# Altium integrated library Microchip DSC 16-Bit dsPIC30F.IntLib: 267 symbols (part 10 of 12)
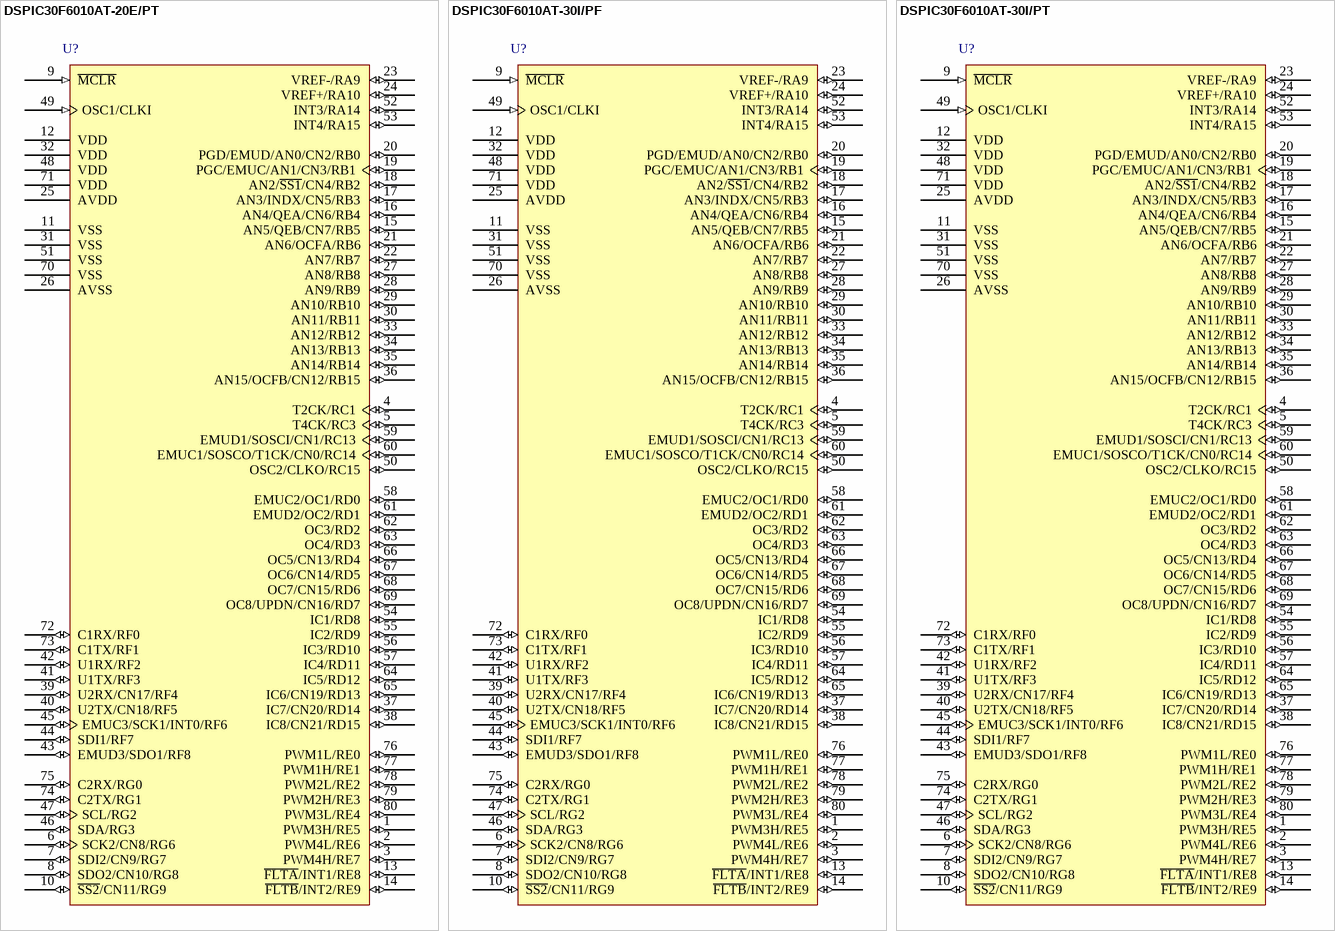
[diagram p52: symbols DSPIC30F6010AT-20E/PT to DSPIC30F6010AT-30I/PT]

## DSPIC30F6010AT-30I/PF
designator U?
High-Performance 16-bit Digital Signal Controller, 144 KB Flash, 8 KB SRAM, 4 KB EEPROM, 80-Pin TQFP, Industrial Temperature, Tape and Reel; Published: 29-Jan-2009; DatasheetVersion: revD, Jun-2008; PackageVersion: revBB, Aug-2009; PackageReference: TQFP-PF80; Publisher: Altium Limited; PackageDescription: 80-Lead Plastic Thin Quad Flatpack (PF) - 14x14x1mm Body, 2.00mm [TQFP]; Supplier 1: Digi-Key; Supplier Part Number 1: DSPIC30F6010AT-30I/PF-ND; Code_JEDEC: MS-026-AEC; ComponentLink1Description: Datasheet; ComponentLink1URL: http://ww1.microchip.com/downloads/en/DeviceDoc/70150D.pdf; ComponentLink2Description: Packaging Specification; ComponentLink2URL: http://www.microchip.com/stellent/groups/techpub_sg/documents/packagingspec/en012702.pdf; ComponentLink3Description: Microchip.com Home; ComponentLink3URL: http://www.microchip.com/
footprint TQFP-PF80_N (Thin QFP, 80-Leads, Body 14 x 14mm, Pitch 0.65mm, IPC Medium Density)
footprint TQFP-PF80_L (Thin QFP, 80-Leads, Body 14 x 14mm, Pitch 0.65mm, IPC High Density)
footprint TQFP-PF80_M (Thin QFP, 80-Leads, Body 14 x 14mm, Pitch 0.65mm, IPC Low Density)
pins: 1 PWM3H/RE5 (io), 2 PWM4L/RE6 (io), 3 PWM4H/RE7 (io), 4 T2CK/RC1 (io), 5 T4CK/RC3 (io), 6 SCK2/CN8/RG6 (io), 7 SDI2/CN9/RG7 (io), 8 SDO2/CN10/RG8 (io), 9 ~{MCLR} (in), 10 ~{SS2}/CN11/RG9 (io), 11 VSS (power), 12 VDD (power), 13 ~{FLTA}/INT1/RE8 (io), 14 ~{FLTB}/INT2/RE9 (io), 15 AN5/QEB/CN7/RB5 (io), 16 AN4/QEA/CN6/RB4 (io), 17 AN3/INDX/CN5/RB3 (io), 18 AN2/~{SS1}/CN4/RB2 (io), 19 PGC/EMUC/AN1/CN3/RB1 (io), 20 PGD/EMUD/AN0/CN2/RB0 (io), 21 AN6/OCFA/RB6 (io), 22 AN7/RB7 (io), 23 VREF-/RA9 (io), 24 VREF+/RA10 (io), 25 AVDD (power), 26 AVSS (power), 27 AN8/RB8 (io), 28 AN9/RB9 (io), 29 AN10/RB10 (io), 30 AN11/RB11 (io), 31 VSS (power), 32 VDD (power), 33 AN12/RB12 (io), 34 AN13/RB13 (io), 35 AN14/RB14 (io), 36 AN15/OCFB/CN12/RB15 (io), 37 IC7/CN20/RD14 (io), 38 IC8/CN21/RD15 (io), 39 U2RX/CN17/RF4 (io), 40 U2TX/CN18/RF5 (io), 41 U1TX/RF3 (io), 42 U1RX/RF2 (io), 43 EMUD3/SDO1/RF8 (io), 44 SDI1/RF7 (io), 45 EMUC3/SCK1/INT0/RF6 (io), 46 SDA/RG3 (io), 47 SCL/RG2 (io), 48 VDD (power), 49 OSC1/CLKI (in), 50 OSC2/CLKO/RC15 (io), 51 VSS (power), 52 INT3/RA14 (io), 53 INT4/RA15 (io), 54 IC1/RD8 (io), 55 IC2/RD9 (io), 56 IC3/RD10 (io), 57 IC4/RD11 (io), 58 EMUC2/OC1/RD0 (io), 59 EMUD1/SOSCI/CN1/RC13 (io), 60 EMUC1/SOSCO/T1CK/CN0/RC14 (io), 61 EMUD2/OC2/RD1 (io), 62 OC3/RD2 (io), 63 OC4/RD3 (io), 64 IC5/RD12 (io), 65 IC6/CN19/RD13 (io), 66 OC5/CN13/RD4 (io), 67 OC6/CN14/RD5 (io), 68 OC7/CN15/RD6 (io), 69 OC8/UPDN/CN16/RD7 (io), 70 VSS (power), 71 VDD (power), 72 C1RX/RF0 (io), 73 C1TX/RF1 (io), 74 C2TX/RG1 (io), 75 C2RX/RG0 (io), 76 PWM1L/RE0 (io), 77 PWM1H/RE1 (io), 78 PWM2L/RE2 (io), 79 PWM2H/RE3 (io), 80 PWM3L/RE4 (io)

## DSPIC30F6010AT-30I/PT
designator U?
High-Performance 16-bit Digital Signal Controller, 144 KB Flash, 8 KB SRAM, 4 KB EEPROM, 80-Pin TQFP, Industrial Temperature, Tape and Reel; Published: 29-Jan-2009; DatasheetVersion: revD, Jun-2008; PackageVersion: revBB, Aug-2009; PackageReference: TQFP-PT80; Publisher: Altium Limited; PackageDescription: 80-Lead Thin Plastic Quad Flat Pack (PT) - 12x12x1mm Body, 2.00mm [TQFP]; Supplier 1: Digi-Key; Supplier Part Number 1: DSPIC30F6010AT-30I/PT-ND; Code_JEDEC: MS-026; ComponentLink1Description: Datasheet; ComponentLink1URL: http://ww1.microchip.com/downloads/en/DeviceDoc/70150D.pdf; ComponentLink2Description: Packaging Specification; ComponentLink2URL: http://www.microchip.com/stellent/groups/techpub_sg/documents/packagingspec/en012702.pdf; ComponentLink3Description: Microchip.com Home; ComponentLink3URL: http://www.microchip.com/
footprint TQFP-PT80_N (Thin QFP, 80-Leads, Body 12x12mm, Pitch 0.5mm, IPC Medium Density)
footprint TQFP-PT80_L (Thin QFP, 80-Leads, Body 12x12mm, Pitch 0.5mm, IPC High Density)
footprint TQFP-PT80_M (Thin QFP, 80-Leads, Body 12x12mm, Pitch 0.5mm, IPC Low Density)
pins: 1 PWM3H/RE5 (io), 2 PWM4L/RE6 (io), 3 PWM4H/RE7 (io), 4 T2CK/RC1 (io), 5 T4CK/RC3 (io), 6 SCK2/CN8/RG6 (io), 7 SDI2/CN9/RG7 (io), 8 SDO2/CN10/RG8 (io), 9 ~{MCLR} (in), 10 ~{SS2}/CN11/RG9 (io), 11 VSS (power), 12 VDD (power), 13 ~{FLTA}/INT1/RE8 (io), 14 ~{FLTB}/INT2/RE9 (io), 15 AN5/QEB/CN7/RB5 (io), 16 AN4/QEA/CN6/RB4 (io), 17 AN3/INDX/CN5/RB3 (io), 18 AN2/~{SS1}/CN4/RB2 (io), 19 PGC/EMUC/AN1/CN3/RB1 (io), 20 PGD/EMUD/AN0/CN2/RB0 (io), 21 AN6/OCFA/RB6 (io), 22 AN7/RB7 (io), 23 VREF-/RA9 (io), 24 VREF+/RA10 (io), 25 AVDD (power), 26 AVSS (power), 27 AN8/RB8 (io), 28 AN9/RB9 (io), 29 AN10/RB10 (io), 30 AN11/RB11 (io), 31 VSS (power), 32 VDD (power), 33 AN12/RB12 (io), 34 AN13/RB13 (io), 35 AN14/RB14 (io), 36 AN15/OCFB/CN12/RB15 (io), 37 IC7/CN20/RD14 (io), 38 IC8/CN21/RD15 (io), 39 U2RX/CN17/RF4 (io), 40 U2TX/CN18/RF5 (io), 41 U1TX/RF3 (io), 42 U1RX/RF2 (io), 43 EMUD3/SDO1/RF8 (io), 44 SDI1/RF7 (io), 45 EMUC3/SCK1/INT0/RF6 (io), 46 SDA/RG3 (io), 47 SCL/RG2 (io), 48 VDD (power), 49 OSC1/CLKI (in), 50 OSC2/CLKO/RC15 (io), 51 VSS (power), 52 INT3/RA14 (io), 53 INT4/RA15 (io), 54 IC1/RD8 (io), 55 IC2/RD9 (io), 56 IC3/RD10 (io), 57 IC4/RD11 (io), 58 EMUC2/OC1/RD0 (io), 59 EMUD1/SOSCI/CN1/RC13 (io), 60 EMUC1/SOSCO/T1CK/CN0/RC14 (io), 61 EMUD2/OC2/RD1 (io), 62 OC3/RD2 (io), 63 OC4/RD3 (io), 64 IC5/RD12 (io), 65 IC6/CN19/RD13 (io), 66 OC5/CN13/RD4 (io), 67 OC6/CN14/RD5 (io), 68 OC7/CN15/RD6 (io), 69 OC8/UPDN/CN16/RD7 (io), 70 VSS (power), 71 VDD (power), 72 C1RX/RF0 (io), 73 C1TX/RF1 (io), 74 C2TX/RG1 (io), 75 C2RX/RG0 (io), 76 PWM1L/RE0 (io), 77 PWM1H/RE1 (io), 78 PWM2L/RE2 (io), 79 PWM2H/RE3 (io), 80 PWM3L/RE4 (io)

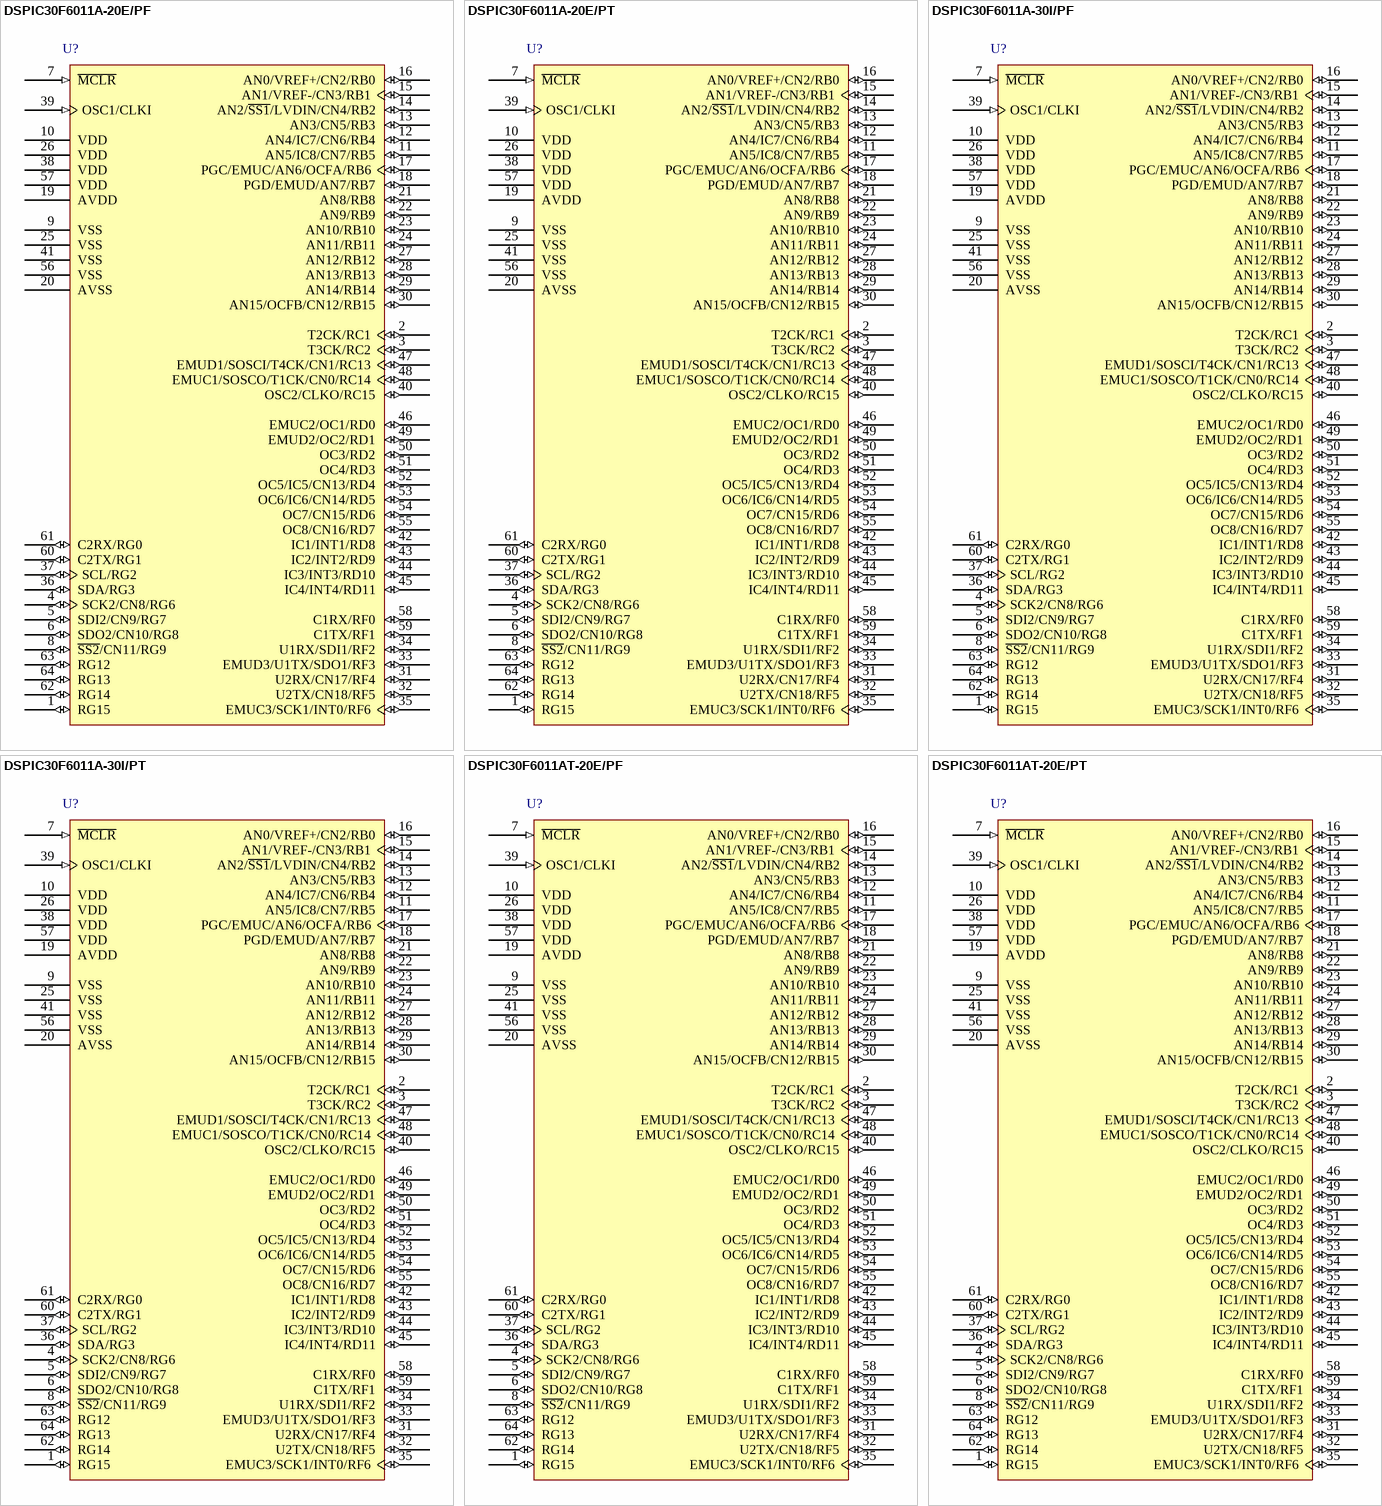
[diagram p33: symbols DSPIC30F6011A-20E/PF to DSPIC30F6011AT-20E/PT]

## DSPIC30F6011A-20E/PF
designator U?
High-Performance 16-bit Digital Signal Controller, 132 KB Flash, 6 KB SRAM, 2 KB EEPROM, 64-Pin TQFP, Extended High Temperature; Published: 29-Jan-2009; DatasheetVersion: revD, Jul-2008; PackageVersion: revBB, Aug-2009; PackageReference: TQFP-PF64; Publisher: Altium Limited; PackageDescription: 64-Lead Plastic Thin Quad Flatpack (PF) - 14x14x1mm Body, 2.00mm [TQFP]; Supplier 1: Digi-Key; Supplier Part Number 1: DSPIC30F6011A-20E/PF-ND; Supplier 2: Farnell; Supplier Part Number 2: 1262776; Code_JEDEC: MS-026-AEB; ComponentLink1Description: Datasheet; ComponentLink1URL: http://ww1.microchip.com/downloads/en/DeviceDoc/70143D.pdf; ComponentLink2Description: Packaging Specification; ComponentLink2URL: http://www.microchip.com/stellent/groups/techpub_sg/documents/packagingspec/en012702.pdf; ComponentLink3Description: Microchip.com Home; ComponentLink3URL: http://www.microchip.com/
footprint TQFP-PF64_N (Thin QFP, 64-Leads, Body 14x14mm, Pitch 0.8mm, IPC Medium Density)
footprint TQFP-PF64_L (Thin QFP, 64-Leads, Body 14x14mm, Pitch 0.8mm, IPC High Density)
footprint TQFP-PF64_M (Thin QFP, 64-Leads, Body 14x14mm, Pitch 0.8mm, IPC Low Density)
pins: 1 RG15 (io), 2 T2CK/RC1 (io), 3 T3CK/RC2 (io), 4 SCK2/CN8/RG6 (io), 5 SDI2/CN9/RG7 (io), 6 SDO2/CN10/RG8 (io), 7 ~{MCLR} (in), 8 ~{SS2}/CN11/RG9 (io), 9 VSS (power), 10 VDD (power), 11 AN5/IC8/CN7/RB5 (io), 12 AN4/IC7/CN6/RB4 (io), 13 AN3/CN5/RB3 (io), 14 AN2/~{SS1}/LVDIN/CN4/RB2 (io), 15 AN1/VREF-/CN3/RB1 (io), 16 AN0/VREF+/CN2/RB0 (io), 17 PGC/EMUC/AN6/OCFA/RB6 (io), 18 PGD/EMUD/AN7/RB7 (io), 19 AVDD (power), 20 AVSS (power), 21 AN8/RB8 (io), 22 AN9/RB9 (io), 23 AN10/RB10 (io), 24 AN11/RB11 (io), 25 VSS (power), 26 VDD (power), 27 AN12/RB12 (io), 28 AN13/RB13 (io), 29 AN14/RB14 (io), 30 AN15/OCFB/CN12/RB15 (io), 31 U2RX/CN17/RF4 (io), 32 U2TX/CN18/RF5 (io), 33 EMUD3/U1TX/SDO1/RF3 (io), 34 U1RX/SDI1/RF2 (io), 35 EMUC3/SCK1/INT0/RF6 (io), 36 SDA/RG3 (io), 37 SCL/RG2 (io), 38 VDD (power), 39 OSC1/CLKI (in), 40 OSC2/CLKO/RC15 (io), 41 VSS (power), 42 IC1/INT1/RD8 (io), 43 IC2/INT2/RD9 (io), 44 IC3/INT3/RD10 (io), 45 IC4/INT4/RD11 (io), 46 EMUC2/OC1/RD0 (io), 47 EMUD1/SOSCI/T4CK/CN1/RC13 (io), 48 EMUC1/SOSCO/T1CK/CN0/RC14 (io), 49 EMUD2/OC2/RD1 (io), 50 OC3/RD2 (io), 51 OC4/RD3 (io), 52 OC5/IC5/CN13/RD4 (io), 53 OC6/IC6/CN14/RD5 (io), 54 OC7/CN15/RD6 (io), 55 OC8/CN16/RD7 (io), 56 VSS (power), 57 VDD (power), 58 C1RX/RF0 (io), 59 C1TX/RF1 (io), 60 C2TX/RG1 (io), 61 C2RX/RG0 (io), 62 RG14 (io), 63 RG12 (io), 64 RG13 (io)

## DSPIC30F6011A-20E/PT
designator U?
High-Performance 16-bit Digital Signal Controller, 132 KB Flash, 6 KB SRAM, 2 KB EEPROM, 64-Pin TQFP, Extended High Temperature; Published: 29-Jan-2009; DatasheetVersion: revD, Jul-2008; PackageVersion: revBB, Aug-2009; PackageReference: TQFP-PT64; Publisher: Altium Limited; PackageDescription: 64-Lead Thin Plastic Quad Flat Pack (PT) - 10x10x1mm Body, 2.00mm [TQFP]; Supplier 1: Digi-Key; Supplier Part Number 1: DSPIC30F6011A-20E/PT-ND; Code_JEDEC: MS-026; ComponentLink1Description: Datasheet; ComponentLink1URL: http://ww1.microchip.com/downloads/en/DeviceDoc/70143D.pdf; ComponentLink2Description: Packaging Specification; ComponentLink2URL: http://www.microchip.com/stellent/groups/techpub_sg/documents/packagingspec/en012702.pdf; ComponentLink3Description: Microchip.com Home; ComponentLink3URL: http://www.microchip.com/
footprint TQFP-PT64_N (Thin QFP, 64-Leads, Body 10x10mm, Pitch 0.5mm, IPC Medium Density)
footprint TQFP-PT64_L (Thin QFP, 64-Leads, Body 10x10mm, Pitch 0.5mm, IPC High Density)
footprint TQFP-PT64_M (Thin QFP, 64-Leads, Body 10x10mm, Pitch 0.5mm, IPC Low Density)
pins: 1 RG15 (io), 2 T2CK/RC1 (io), 3 T3CK/RC2 (io), 4 SCK2/CN8/RG6 (io), 5 SDI2/CN9/RG7 (io), 6 SDO2/CN10/RG8 (io), 7 ~{MCLR} (in), 8 ~{SS2}/CN11/RG9 (io), 9 VSS (power), 10 VDD (power), 11 AN5/IC8/CN7/RB5 (io), 12 AN4/IC7/CN6/RB4 (io), 13 AN3/CN5/RB3 (io), 14 AN2/~{SS1}/LVDIN/CN4/RB2 (io), 15 AN1/VREF-/CN3/RB1 (io), 16 AN0/VREF+/CN2/RB0 (io), 17 PGC/EMUC/AN6/OCFA/RB6 (io), 18 PGD/EMUD/AN7/RB7 (io), 19 AVDD (power), 20 AVSS (power), 21 AN8/RB8 (io), 22 AN9/RB9 (io), 23 AN10/RB10 (io), 24 AN11/RB11 (io), 25 VSS (power), 26 VDD (power), 27 AN12/RB12 (io), 28 AN13/RB13 (io), 29 AN14/RB14 (io), 30 AN15/OCFB/CN12/RB15 (io), 31 U2RX/CN17/RF4 (io), 32 U2TX/CN18/RF5 (io), 33 EMUD3/U1TX/SDO1/RF3 (io), 34 U1RX/SDI1/RF2 (io), 35 EMUC3/SCK1/INT0/RF6 (io), 36 SDA/RG3 (io), 37 SCL/RG2 (io), 38 VDD (power), 39 OSC1/CLKI (in), 40 OSC2/CLKO/RC15 (io), 41 VSS (power), 42 IC1/INT1/RD8 (io), 43 IC2/INT2/RD9 (io), 44 IC3/INT3/RD10 (io), 45 IC4/INT4/RD11 (io), 46 EMUC2/OC1/RD0 (io), 47 EMUD1/SOSCI/T4CK/CN1/RC13 (io), 48 EMUC1/SOSCO/T1CK/CN0/RC14 (io), 49 EMUD2/OC2/RD1 (io), 50 OC3/RD2 (io), 51 OC4/RD3 (io), 52 OC5/IC5/CN13/RD4 (io), 53 OC6/IC6/CN14/RD5 (io), 54 OC7/CN15/RD6 (io), 55 OC8/CN16/RD7 (io), 56 VSS (power), 57 VDD (power), 58 C1RX/RF0 (io), 59 C1TX/RF1 (io), 60 C2TX/RG1 (io), 61 C2RX/RG0 (io), 62 RG14 (io), 63 RG12 (io), 64 RG13 (io)

## DSPIC30F6011A-30I/PF
designator U?
High-Performance 16-bit Digital Signal Controller, 132 KB Flash, 6 KB SRAM, 2 KB EEPROM, 64-Pin TQFP, Industrial Temperature; Published: 29-Jan-2009; DatasheetVersion: revD, Jul-2008; PackageVersion: revBB, Aug-2009; PackageReference: TQFP-PF64; Publisher: Altium Limited; PackageDescription: 64-Lead Plastic Thin Quad Flatpack (PF) - 14x14x1mm Body, 2.00mm [TQFP]; Supplier 1: Digi-Key; Supplier Part Number 1: DSPIC30F6011A-30I/PF-ND; Supplier 2: Farnell; Supplier Part Number 2: 1262777; Code_JEDEC: MS-026-AEB; ComponentLink1Description: Datasheet; ComponentLink1URL: http://ww1.microchip.com/downloads/en/DeviceDoc/70143D.pdf; ComponentLink2Description: Packaging Specification; ComponentLink2URL: http://www.microchip.com/stellent/groups/techpub_sg/documents/packagingspec/en012702.pdf; ComponentLink3Description: Microchip.com Home; ComponentLink3URL: http://www.microchip.com/
footprint TQFP-PF64_N (Thin QFP, 64-Leads, Body 14x14mm, Pitch 0.8mm, IPC Medium Density)
footprint TQFP-PF64_L (Thin QFP, 64-Leads, Body 14x14mm, Pitch 0.8mm, IPC High Density)
footprint TQFP-PF64_M (Thin QFP, 64-Leads, Body 14x14mm, Pitch 0.8mm, IPC Low Density)
pins: 1 RG15 (io), 2 T2CK/RC1 (io), 3 T3CK/RC2 (io), 4 SCK2/CN8/RG6 (io), 5 SDI2/CN9/RG7 (io), 6 SDO2/CN10/RG8 (io), 7 ~{MCLR} (in), 8 ~{SS2}/CN11/RG9 (io), 9 VSS (power), 10 VDD (power), 11 AN5/IC8/CN7/RB5 (io), 12 AN4/IC7/CN6/RB4 (io), 13 AN3/CN5/RB3 (io), 14 AN2/~{SS1}/LVDIN/CN4/RB2 (io), 15 AN1/VREF-/CN3/RB1 (io), 16 AN0/VREF+/CN2/RB0 (io), 17 PGC/EMUC/AN6/OCFA/RB6 (io), 18 PGD/EMUD/AN7/RB7 (io), 19 AVDD (power), 20 AVSS (power), 21 AN8/RB8 (io), 22 AN9/RB9 (io), 23 AN10/RB10 (io), 24 AN11/RB11 (io), 25 VSS (power), 26 VDD (power), 27 AN12/RB12 (io), 28 AN13/RB13 (io), 29 AN14/RB14 (io), 30 AN15/OCFB/CN12/RB15 (io), 31 U2RX/CN17/RF4 (io), 32 U2TX/CN18/RF5 (io), 33 EMUD3/U1TX/SDO1/RF3 (io), 34 U1RX/SDI1/RF2 (io), 35 EMUC3/SCK1/INT0/RF6 (io), 36 SDA/RG3 (io), 37 SCL/RG2 (io), 38 VDD (power), 39 OSC1/CLKI (in), 40 OSC2/CLKO/RC15 (io), 41 VSS (power), 42 IC1/INT1/RD8 (io), 43 IC2/INT2/RD9 (io), 44 IC3/INT3/RD10 (io), 45 IC4/INT4/RD11 (io), 46 EMUC2/OC1/RD0 (io), 47 EMUD1/SOSCI/T4CK/CN1/RC13 (io), 48 EMUC1/SOSCO/T1CK/CN0/RC14 (io), 49 EMUD2/OC2/RD1 (io), 50 OC3/RD2 (io), 51 OC4/RD3 (io), 52 OC5/IC5/CN13/RD4 (io), 53 OC6/IC6/CN14/RD5 (io), 54 OC7/CN15/RD6 (io), 55 OC8/CN16/RD7 (io), 56 VSS (power), 57 VDD (power), 58 C1RX/RF0 (io), 59 C1TX/RF1 (io), 60 C2TX/RG1 (io), 61 C2RX/RG0 (io), 62 RG14 (io), 63 RG12 (io), 64 RG13 (io)

## DSPIC30F6011A-30I/PT
designator U?
High-Performance 16-bit Digital Signal Controller, 132 KB Flash, 6 KB SRAM, 2 KB EEPROM, 64-Pin TQFP, Industrial Temperature; Published: 29-Jan-2009; DatasheetVersion: revD, Jul-2008; PackageVersion: revBB, Aug-2009; PackageReference: TQFP-PT64; Publisher: Altium Limited; PackageDescription: 64-Lead Thin Plastic Quad Flat Pack (PT) - 10x10x1mm Body, 2.00mm [TQFP]; Supplier 1: Digi-Key; Supplier Part Number 1: DSPIC30F6011A30IP-ND; Supplier 2: Farnell; Supplier Part Number 2: 1332033; Code_JEDEC: MS-026; ComponentLink1Description: Datasheet; ComponentLink1URL: http://ww1.microchip.com/downloads/en/DeviceDoc/70143D.pdf; ComponentLink2Description: Packaging Specification; ComponentLink2URL: http://www.microchip.com/stellent/groups/techpub_sg/documents/packagingspec/en012702.pdf; ComponentLink3Description: Microchip.com Home; ComponentLink3URL: http://www.microchip.com/
footprint TQFP-PT64_N (Thin QFP, 64-Leads, Body 10x10mm, Pitch 0.5mm, IPC Medium Density)
footprint TQFP-PT64_L (Thin QFP, 64-Leads, Body 10x10mm, Pitch 0.5mm, IPC High Density)
footprint TQFP-PT64_M (Thin QFP, 64-Leads, Body 10x10mm, Pitch 0.5mm, IPC Low Density)
pins: 1 RG15 (io), 2 T2CK/RC1 (io), 3 T3CK/RC2 (io), 4 SCK2/CN8/RG6 (io), 5 SDI2/CN9/RG7 (io), 6 SDO2/CN10/RG8 (io), 7 ~{MCLR} (in), 8 ~{SS2}/CN11/RG9 (io), 9 VSS (power), 10 VDD (power), 11 AN5/IC8/CN7/RB5 (io), 12 AN4/IC7/CN6/RB4 (io), 13 AN3/CN5/RB3 (io), 14 AN2/~{SS1}/LVDIN/CN4/RB2 (io), 15 AN1/VREF-/CN3/RB1 (io), 16 AN0/VREF+/CN2/RB0 (io), 17 PGC/EMUC/AN6/OCFA/RB6 (io), 18 PGD/EMUD/AN7/RB7 (io), 19 AVDD (power), 20 AVSS (power), 21 AN8/RB8 (io), 22 AN9/RB9 (io), 23 AN10/RB10 (io), 24 AN11/RB11 (io), 25 VSS (power), 26 VDD (power), 27 AN12/RB12 (io), 28 AN13/RB13 (io), 29 AN14/RB14 (io), 30 AN15/OCFB/CN12/RB15 (io), 31 U2RX/CN17/RF4 (io), 32 U2TX/CN18/RF5 (io), 33 EMUD3/U1TX/SDO1/RF3 (io), 34 U1RX/SDI1/RF2 (io), 35 EMUC3/SCK1/INT0/RF6 (io), 36 SDA/RG3 (io), 37 SCL/RG2 (io), 38 VDD (power), 39 OSC1/CLKI (in), 40 OSC2/CLKO/RC15 (io), 41 VSS (power), 42 IC1/INT1/RD8 (io), 43 IC2/INT2/RD9 (io), 44 IC3/INT3/RD10 (io), 45 IC4/INT4/RD11 (io), 46 EMUC2/OC1/RD0 (io), 47 EMUD1/SOSCI/T4CK/CN1/RC13 (io), 48 EMUC1/SOSCO/T1CK/CN0/RC14 (io), 49 EMUD2/OC2/RD1 (io), 50 OC3/RD2 (io), 51 OC4/RD3 (io), 52 OC5/IC5/CN13/RD4 (io), 53 OC6/IC6/CN14/RD5 (io), 54 OC7/CN15/RD6 (io), 55 OC8/CN16/RD7 (io), 56 VSS (power), 57 VDD (power), 58 C1RX/RF0 (io), 59 C1TX/RF1 (io), 60 C2TX/RG1 (io), 61 C2RX/RG0 (io), 62 RG14 (io), 63 RG12 (io), 64 RG13 (io)

## DSPIC30F6011AT-20E/PF
designator U?
High-Performance 16-bit Digital Signal Controller, 132 KB Flash, 6 KB SRAM, 2 KB EEPROM, 64-Pin TQFP, Extended High Temperature, Tape and Reel; Published: 29-Jan-2009; DatasheetVersion: revD, Jul-2008; PackageVersion: revBB, Aug-2009; PackageReference: TQFP-PF64; Publisher: Altium Limited; PackageDescription: 64-Lead Plastic Thin Quad Flatpack (PF) - 14x14x1mm Body, 2.00mm [TQFP]; Code_JEDEC: MS-026-AEB; ComponentLink1Description: Datasheet; ComponentLink1URL: http://ww1.microchip.com/downloads/en/DeviceDoc/70143D.pdf; ComponentLink2Description: Packaging Specification; ComponentLink2URL: http://www.microchip.com/stellent/groups/techpub_sg/documents/packagingspec/en012702.pdf; ComponentLink3Description: Microchip.com Home; ComponentLink3URL: http://www.microchip.com/
footprint TQFP-PF64_N (Thin QFP, 64-Leads, Body 14x14mm, Pitch 0.8mm, IPC Medium Density)
footprint TQFP-PF64_L (Thin QFP, 64-Leads, Body 14x14mm, Pitch 0.8mm, IPC High Density)
footprint TQFP-PF64_M (Thin QFP, 64-Leads, Body 14x14mm, Pitch 0.8mm, IPC Low Density)
pins: 1 RG15 (io), 2 T2CK/RC1 (io), 3 T3CK/RC2 (io), 4 SCK2/CN8/RG6 (io), 5 SDI2/CN9/RG7 (io), 6 SDO2/CN10/RG8 (io), 7 ~{MCLR} (in), 8 ~{SS2}/CN11/RG9 (io), 9 VSS (power), 10 VDD (power), 11 AN5/IC8/CN7/RB5 (io), 12 AN4/IC7/CN6/RB4 (io), 13 AN3/CN5/RB3 (io), 14 AN2/~{SS1}/LVDIN/CN4/RB2 (io), 15 AN1/VREF-/CN3/RB1 (io), 16 AN0/VREF+/CN2/RB0 (io), 17 PGC/EMUC/AN6/OCFA/RB6 (io), 18 PGD/EMUD/AN7/RB7 (io), 19 AVDD (power), 20 AVSS (power), 21 AN8/RB8 (io), 22 AN9/RB9 (io), 23 AN10/RB10 (io), 24 AN11/RB11 (io), 25 VSS (power), 26 VDD (power), 27 AN12/RB12 (io), 28 AN13/RB13 (io), 29 AN14/RB14 (io), 30 AN15/OCFB/CN12/RB15 (io), 31 U2RX/CN17/RF4 (io), 32 U2TX/CN18/RF5 (io), 33 EMUD3/U1TX/SDO1/RF3 (io), 34 U1RX/SDI1/RF2 (io), 35 EMUC3/SCK1/INT0/RF6 (io), 36 SDA/RG3 (io), 37 SCL/RG2 (io), 38 VDD (power), 39 OSC1/CLKI (in), 40 OSC2/CLKO/RC15 (io), 41 VSS (power), 42 IC1/INT1/RD8 (io), 43 IC2/INT2/RD9 (io), 44 IC3/INT3/RD10 (io), 45 IC4/INT4/RD11 (io), 46 EMUC2/OC1/RD0 (io), 47 EMUD1/SOSCI/T4CK/CN1/RC13 (io), 48 EMUC1/SOSCO/T1CK/CN0/RC14 (io), 49 EMUD2/OC2/RD1 (io), 50 OC3/RD2 (io), 51 OC4/RD3 (io), 52 OC5/IC5/CN13/RD4 (io), 53 OC6/IC6/CN14/RD5 (io), 54 OC7/CN15/RD6 (io), 55 OC8/CN16/RD7 (io), 56 VSS (power), 57 VDD (power), 58 C1RX/RF0 (io), 59 C1TX/RF1 (io), 60 C2TX/RG1 (io), 61 C2RX/RG0 (io), 62 RG14 (io), 63 RG12 (io), 64 RG13 (io)

## DSPIC30F6011AT-20E/PT
designator U?
High-Performance 16-bit Digital Signal Controller, 132 KB Flash, 6 KB SRAM, 2 KB EEPROM, 64-Pin TQFP, Extended High Temperature, Tape and Reel; Published: 29-Jan-2009; DatasheetVersion: revD, Jul-2008; PackageVersion: revBB, Aug-2009; PackageReference: TQFP-PT64; Publisher: Altium Limited; PackageDescription: 64-Lead Thin Plastic Quad Flat Pack (PT) - 10x10x1mm Body, 2.00mm [TQFP]; Supplier 1: Digi-Key; Supplier Part Number 1: DSPIC30F6011AT-20E/PT-ND; Code_JEDEC: MS-026; ComponentLink1Description: Datasheet; ComponentLink1URL: http://ww1.microchip.com/downloads/en/DeviceDoc/70143D.pdf; ComponentLink2Description: Packaging Specification; ComponentLink2URL: http://www.microchip.com/stellent/groups/techpub_sg/documents/packagingspec/en012702.pdf; ComponentLink3Description: Microchip.com Home; ComponentLink3URL: http://www.microchip.com/
footprint TQFP-PT64_N (Thin QFP, 64-Leads, Body 10x10mm, Pitch 0.5mm, IPC Medium Density)
footprint TQFP-PT64_L (Thin QFP, 64-Leads, Body 10x10mm, Pitch 0.5mm, IPC High Density)
footprint TQFP-PT64_M (Thin QFP, 64-Leads, Body 10x10mm, Pitch 0.5mm, IPC Low Density)
pins: 1 RG15 (io), 2 T2CK/RC1 (io), 3 T3CK/RC2 (io), 4 SCK2/CN8/RG6 (io), 5 SDI2/CN9/RG7 (io), 6 SDO2/CN10/RG8 (io), 7 ~{MCLR} (in), 8 ~{SS2}/CN11/RG9 (io), 9 VSS (power), 10 VDD (power), 11 AN5/IC8/CN7/RB5 (io), 12 AN4/IC7/CN6/RB4 (io), 13 AN3/CN5/RB3 (io), 14 AN2/~{SS1}/LVDIN/CN4/RB2 (io), 15 AN1/VREF-/CN3/RB1 (io), 16 AN0/VREF+/CN2/RB0 (io), 17 PGC/EMUC/AN6/OCFA/RB6 (io), 18 PGD/EMUD/AN7/RB7 (io), 19 AVDD (power), 20 AVSS (power), 21 AN8/RB8 (io), 22 AN9/RB9 (io), 23 AN10/RB10 (io), 24 AN11/RB11 (io), 25 VSS (power), 26 VDD (power), 27 AN12/RB12 (io), 28 AN13/RB13 (io), 29 AN14/RB14 (io), 30 AN15/OCFB/CN12/RB15 (io), 31 U2RX/CN17/RF4 (io), 32 U2TX/CN18/RF5 (io), 33 EMUD3/U1TX/SDO1/RF3 (io), 34 U1RX/SDI1/RF2 (io), 35 EMUC3/SCK1/INT0/RF6 (io), 36 SDA/RG3 (io), 37 SCL/RG2 (io), 38 VDD (power), 39 OSC1/CLKI (in), 40 OSC2/CLKO/RC15 (io), 41 VSS (power), 42 IC1/INT1/RD8 (io), 43 IC2/INT2/RD9 (io), 44 IC3/INT3/RD10 (io), 45 IC4/INT4/RD11 (io), 46 EMUC2/OC1/RD0 (io), 47 EMUD1/SOSCI/T4CK/CN1/RC13 (io), 48 EMUC1/SOSCO/T1CK/CN0/RC14 (io), 49 EMUD2/OC2/RD1 (io), 50 OC3/RD2 (io), 51 OC4/RD3 (io), 52 OC5/IC5/CN13/RD4 (io), 53 OC6/IC6/CN14/RD5 (io), 54 OC7/CN15/RD6 (io), 55 OC8/CN16/RD7 (io), 56 VSS (power), 57 VDD (power), 58 C1RX/RF0 (io), 59 C1TX/RF1 (io), 60 C2TX/RG1 (io), 61 C2RX/RG0 (io), 62 RG14 (io), 63 RG12 (io), 64 RG13 (io)

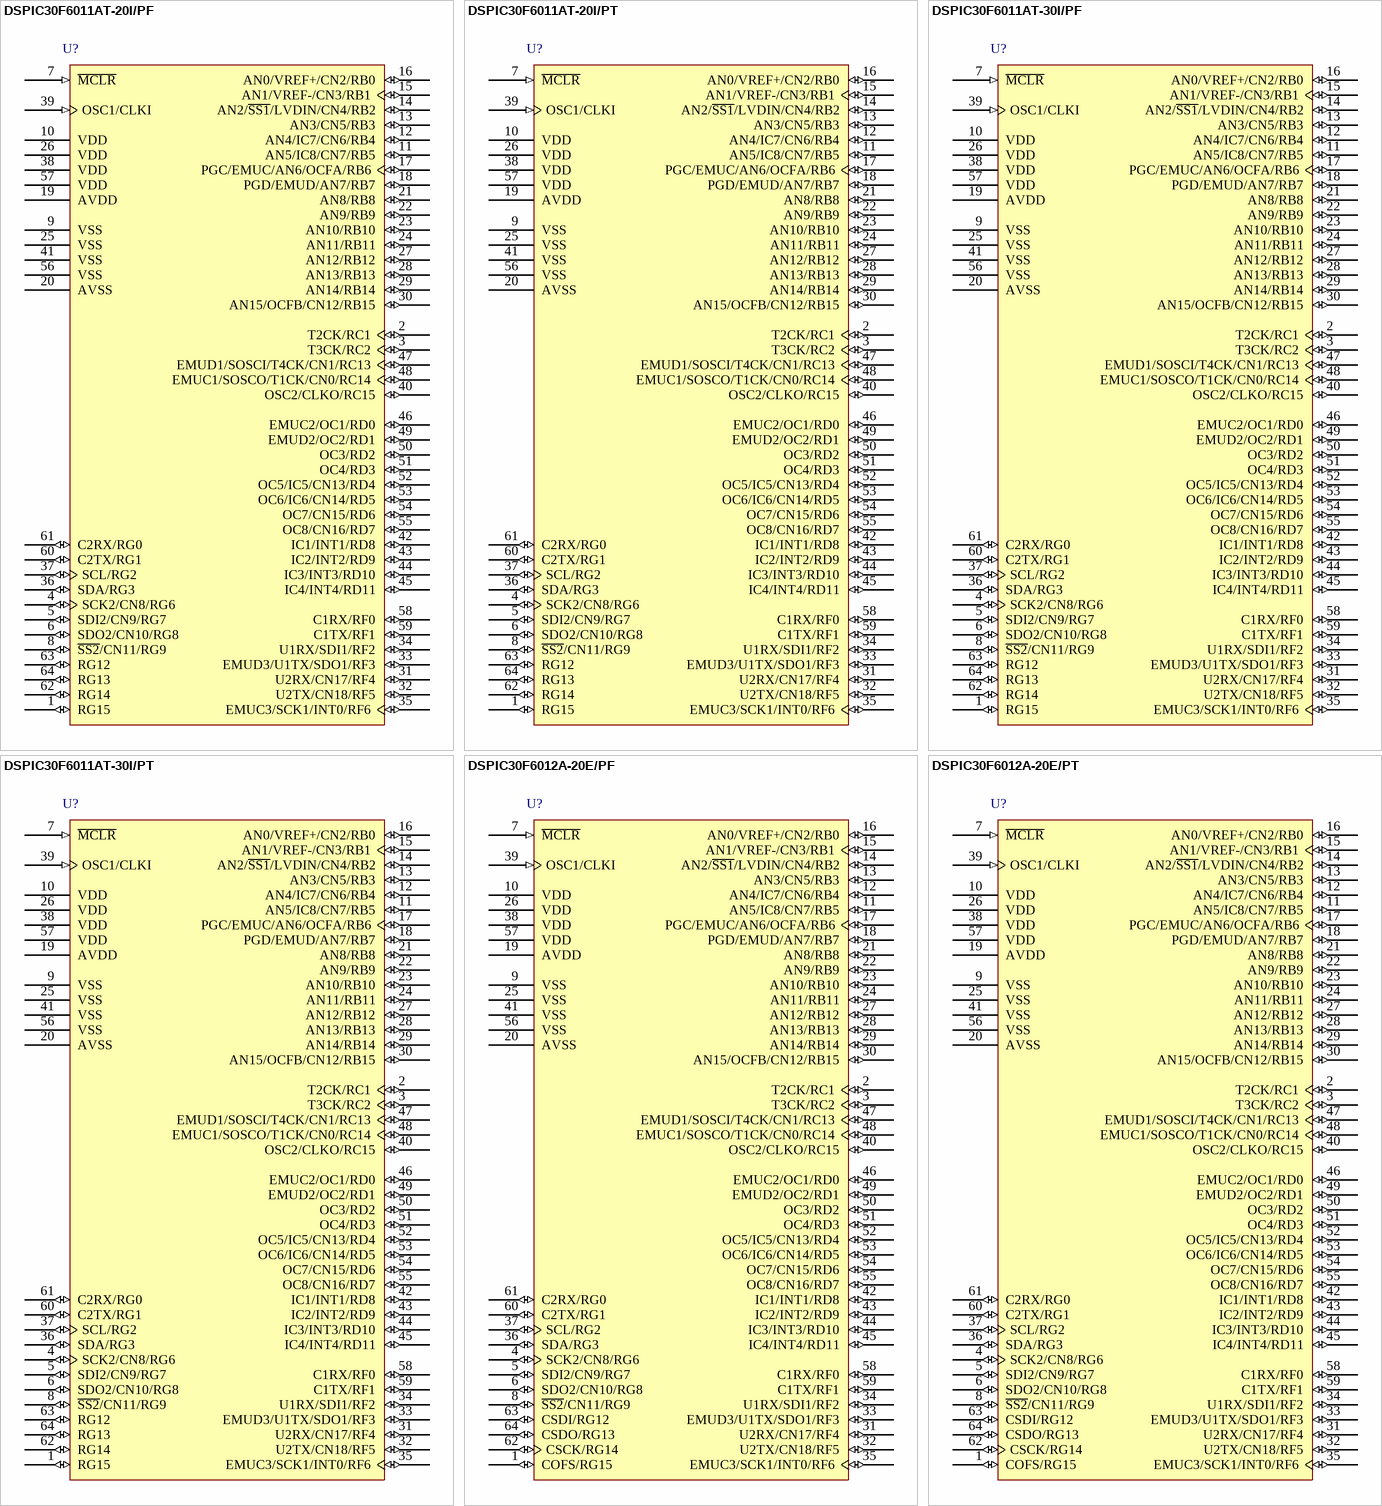
[diagram p34: symbols DSPIC30F6011AT-20I/PF to DSPIC30F6012A-20E/PT]

## DSPIC30F6011AT-20I/PF
designator U?
High-Performance 16-bit Digital Signal Controller, 132 KB Flash, 6 KB SRAM, 2 KB EEPROM, 64-Pin TQFP, Industrial Temperature, Tape and Reel; Published: 29-Jan-2009; DatasheetVersion: revD, Jul-2008; PackageVersion: revBB, Aug-2009; PackageReference: TQFP-PF64; Publisher: Altium Limited; PackageDescription: 64-Lead Plastic Thin Quad Flatpack (PF) - 14x14x1mm Body, 2.00mm [TQFP]; Code_JEDEC: MS-026-AEB; ComponentLink1Description: Datasheet; ComponentLink1URL: http://ww1.microchip.com/downloads/en/DeviceDoc/70143D.pdf; ComponentLink2Description: Packaging Specification; ComponentLink2URL: http://www.microchip.com/stellent/groups/techpub_sg/documents/packagingspec/en012702.pdf; ComponentLink3Description: Microchip.com Home; ComponentLink3URL: http://www.microchip.com/
footprint TQFP-PF64_N (Thin QFP, 64-Leads, Body 14x14mm, Pitch 0.8mm, IPC Medium Density)
footprint TQFP-PF64_L (Thin QFP, 64-Leads, Body 14x14mm, Pitch 0.8mm, IPC High Density)
footprint TQFP-PF64_M (Thin QFP, 64-Leads, Body 14x14mm, Pitch 0.8mm, IPC Low Density)
pins: 1 RG15 (io), 2 T2CK/RC1 (io), 3 T3CK/RC2 (io), 4 SCK2/CN8/RG6 (io), 5 SDI2/CN9/RG7 (io), 6 SDO2/CN10/RG8 (io), 7 ~{MCLR} (in), 8 ~{SS2}/CN11/RG9 (io), 9 VSS (power), 10 VDD (power), 11 AN5/IC8/CN7/RB5 (io), 12 AN4/IC7/CN6/RB4 (io), 13 AN3/CN5/RB3 (io), 14 AN2/~{SS1}/LVDIN/CN4/RB2 (io), 15 AN1/VREF-/CN3/RB1 (io), 16 AN0/VREF+/CN2/RB0 (io), 17 PGC/EMUC/AN6/OCFA/RB6 (io), 18 PGD/EMUD/AN7/RB7 (io), 19 AVDD (power), 20 AVSS (power), 21 AN8/RB8 (io), 22 AN9/RB9 (io), 23 AN10/RB10 (io), 24 AN11/RB11 (io), 25 VSS (power), 26 VDD (power), 27 AN12/RB12 (io), 28 AN13/RB13 (io), 29 AN14/RB14 (io), 30 AN15/OCFB/CN12/RB15 (io), 31 U2RX/CN17/RF4 (io), 32 U2TX/CN18/RF5 (io), 33 EMUD3/U1TX/SDO1/RF3 (io), 34 U1RX/SDI1/RF2 (io), 35 EMUC3/SCK1/INT0/RF6 (io), 36 SDA/RG3 (io), 37 SCL/RG2 (io), 38 VDD (power), 39 OSC1/CLKI (in), 40 OSC2/CLKO/RC15 (io), 41 VSS (power), 42 IC1/INT1/RD8 (io), 43 IC2/INT2/RD9 (io), 44 IC3/INT3/RD10 (io), 45 IC4/INT4/RD11 (io), 46 EMUC2/OC1/RD0 (io), 47 EMUD1/SOSCI/T4CK/CN1/RC13 (io), 48 EMUC1/SOSCO/T1CK/CN0/RC14 (io), 49 EMUD2/OC2/RD1 (io), 50 OC3/RD2 (io), 51 OC4/RD3 (io), 52 OC5/IC5/CN13/RD4 (io), 53 OC6/IC6/CN14/RD5 (io), 54 OC7/CN15/RD6 (io), 55 OC8/CN16/RD7 (io), 56 VSS (power), 57 VDD (power), 58 C1RX/RF0 (io), 59 C1TX/RF1 (io), 60 C2TX/RG1 (io), 61 C2RX/RG0 (io), 62 RG14 (io), 63 RG12 (io), 64 RG13 (io)

## DSPIC30F6011AT-20I/PT
designator U?
High-Performance 16-bit Digital Signal Controller, 132 KB Flash, 6 KB SRAM, 2 KB EEPROM, 64-Pin TQFP, Industrial Temperature, Tape and Reel; Published: 29-Jan-2009; DatasheetVersion: revD, Jul-2008; PackageVersion: revBB, Aug-2009; PackageReference: TQFP-PT64; Publisher: Altium Limited; PackageDescription: 64-Lead Thin Plastic Quad Flat Pack (PT) - 10x10x1mm Body, 2.00mm [TQFP]; Supplier 1: Digi-Key; Supplier Part Number 1: DSPIC30F6011AT-20I/PT-ND; Code_JEDEC: MS-026; ComponentLink1Description: Datasheet; ComponentLink1URL: http://ww1.microchip.com/downloads/en/DeviceDoc/70143D.pdf; ComponentLink2Description: Packaging Specification; ComponentLink2URL: http://www.microchip.com/stellent/groups/techpub_sg/documents/packagingspec/en012702.pdf; ComponentLink3Description: Microchip.com Home; ComponentLink3URL: http://www.microchip.com/
footprint TQFP-PT64_N (Thin QFP, 64-Leads, Body 10x10mm, Pitch 0.5mm, IPC Medium Density)
footprint TQFP-PT64_L (Thin QFP, 64-Leads, Body 10x10mm, Pitch 0.5mm, IPC High Density)
footprint TQFP-PT64_M (Thin QFP, 64-Leads, Body 10x10mm, Pitch 0.5mm, IPC Low Density)
pins: 1 RG15 (io), 2 T2CK/RC1 (io), 3 T3CK/RC2 (io), 4 SCK2/CN8/RG6 (io), 5 SDI2/CN9/RG7 (io), 6 SDO2/CN10/RG8 (io), 7 ~{MCLR} (in), 8 ~{SS2}/CN11/RG9 (io), 9 VSS (power), 10 VDD (power), 11 AN5/IC8/CN7/RB5 (io), 12 AN4/IC7/CN6/RB4 (io), 13 AN3/CN5/RB3 (io), 14 AN2/~{SS1}/LVDIN/CN4/RB2 (io), 15 AN1/VREF-/CN3/RB1 (io), 16 AN0/VREF+/CN2/RB0 (io), 17 PGC/EMUC/AN6/OCFA/RB6 (io), 18 PGD/EMUD/AN7/RB7 (io), 19 AVDD (power), 20 AVSS (power), 21 AN8/RB8 (io), 22 AN9/RB9 (io), 23 AN10/RB10 (io), 24 AN11/RB11 (io), 25 VSS (power), 26 VDD (power), 27 AN12/RB12 (io), 28 AN13/RB13 (io), 29 AN14/RB14 (io), 30 AN15/OCFB/CN12/RB15 (io), 31 U2RX/CN17/RF4 (io), 32 U2TX/CN18/RF5 (io), 33 EMUD3/U1TX/SDO1/RF3 (io), 34 U1RX/SDI1/RF2 (io), 35 EMUC3/SCK1/INT0/RF6 (io), 36 SDA/RG3 (io), 37 SCL/RG2 (io), 38 VDD (power), 39 OSC1/CLKI (in), 40 OSC2/CLKO/RC15 (io), 41 VSS (power), 42 IC1/INT1/RD8 (io), 43 IC2/INT2/RD9 (io), 44 IC3/INT3/RD10 (io), 45 IC4/INT4/RD11 (io), 46 EMUC2/OC1/RD0 (io), 47 EMUD1/SOSCI/T4CK/CN1/RC13 (io), 48 EMUC1/SOSCO/T1CK/CN0/RC14 (io), 49 EMUD2/OC2/RD1 (io), 50 OC3/RD2 (io), 51 OC4/RD3 (io), 52 OC5/IC5/CN13/RD4 (io), 53 OC6/IC6/CN14/RD5 (io), 54 OC7/CN15/RD6 (io), 55 OC8/CN16/RD7 (io), 56 VSS (power), 57 VDD (power), 58 C1RX/RF0 (io), 59 C1TX/RF1 (io), 60 C2TX/RG1 (io), 61 C2RX/RG0 (io), 62 RG14 (io), 63 RG12 (io), 64 RG13 (io)

## DSPIC30F6011AT-30I/PF
designator U?
High-Performance 16-bit Digital Signal Controller, 132 KB Flash, 6 KB SRAM, 2 KB EEPROM, 64-Pin TQFP, Industrial Temperature, Tape and Reel; Published: 29-Jan-2009; DatasheetVersion: revD, Jul-2008; PackageVersion: revBB, Aug-2009; PackageReference: TQFP-PF64; Publisher: Altium Limited; PackageDescription: 64-Lead Plastic Thin Quad Flatpack (PF) - 14x14x1mm Body, 2.00mm [TQFP]; Supplier 1: Digi-Key; Supplier Part Number 1: DSPIC30F6011AT-30I/PF-ND; Code_JEDEC: MS-026-AEB; ComponentLink1Description: Datasheet; ComponentLink1URL: http://ww1.microchip.com/downloads/en/DeviceDoc/70143D.pdf; ComponentLink2Description: Packaging Specification; ComponentLink2URL: http://www.microchip.com/stellent/groups/techpub_sg/documents/packagingspec/en012702.pdf; ComponentLink3Description: Microchip.com Home; ComponentLink3URL: http://www.microchip.com/
footprint TQFP-PF64_N (Thin QFP, 64-Leads, Body 14x14mm, Pitch 0.8mm, IPC Medium Density)
footprint TQFP-PF64_L (Thin QFP, 64-Leads, Body 14x14mm, Pitch 0.8mm, IPC High Density)
footprint TQFP-PF64_M (Thin QFP, 64-Leads, Body 14x14mm, Pitch 0.8mm, IPC Low Density)
pins: 1 RG15 (io), 2 T2CK/RC1 (io), 3 T3CK/RC2 (io), 4 SCK2/CN8/RG6 (io), 5 SDI2/CN9/RG7 (io), 6 SDO2/CN10/RG8 (io), 7 ~{MCLR} (in), 8 ~{SS2}/CN11/RG9 (io), 9 VSS (power), 10 VDD (power), 11 AN5/IC8/CN7/RB5 (io), 12 AN4/IC7/CN6/RB4 (io), 13 AN3/CN5/RB3 (io), 14 AN2/~{SS1}/LVDIN/CN4/RB2 (io), 15 AN1/VREF-/CN3/RB1 (io), 16 AN0/VREF+/CN2/RB0 (io), 17 PGC/EMUC/AN6/OCFA/RB6 (io), 18 PGD/EMUD/AN7/RB7 (io), 19 AVDD (power), 20 AVSS (power), 21 AN8/RB8 (io), 22 AN9/RB9 (io), 23 AN10/RB10 (io), 24 AN11/RB11 (io), 25 VSS (power), 26 VDD (power), 27 AN12/RB12 (io), 28 AN13/RB13 (io), 29 AN14/RB14 (io), 30 AN15/OCFB/CN12/RB15 (io), 31 U2RX/CN17/RF4 (io), 32 U2TX/CN18/RF5 (io), 33 EMUD3/U1TX/SDO1/RF3 (io), 34 U1RX/SDI1/RF2 (io), 35 EMUC3/SCK1/INT0/RF6 (io), 36 SDA/RG3 (io), 37 SCL/RG2 (io), 38 VDD (power), 39 OSC1/CLKI (in), 40 OSC2/CLKO/RC15 (io), 41 VSS (power), 42 IC1/INT1/RD8 (io), 43 IC2/INT2/RD9 (io), 44 IC3/INT3/RD10 (io), 45 IC4/INT4/RD11 (io), 46 EMUC2/OC1/RD0 (io), 47 EMUD1/SOSCI/T4CK/CN1/RC13 (io), 48 EMUC1/SOSCO/T1CK/CN0/RC14 (io), 49 EMUD2/OC2/RD1 (io), 50 OC3/RD2 (io), 51 OC4/RD3 (io), 52 OC5/IC5/CN13/RD4 (io), 53 OC6/IC6/CN14/RD5 (io), 54 OC7/CN15/RD6 (io), 55 OC8/CN16/RD7 (io), 56 VSS (power), 57 VDD (power), 58 C1RX/RF0 (io), 59 C1TX/RF1 (io), 60 C2TX/RG1 (io), 61 C2RX/RG0 (io), 62 RG14 (io), 63 RG12 (io), 64 RG13 (io)

## DSPIC30F6011AT-30I/PT
designator U?
High-Performance 16-bit Digital Signal Controller, 132 KB Flash, 6 KB SRAM, 2 KB EEPROM, 64-Pin TQFP, Industrial Temperature, Tape and Reel; Published: 29-Jan-2009; DatasheetVersion: revD, Jul-2008; PackageVersion: revBB, Aug-2009; PackageReference: TQFP-PT64; Publisher: Altium Limited; PackageDescription: 64-Lead Thin Plastic Quad Flat Pack (PT) - 10x10x1mm Body, 2.00mm [TQFP]; Supplier 1: Digi-Key; Supplier Part Number 1: DSPIC30F6011AT-30I/PT-ND; Code_JEDEC: MS-026; ComponentLink1Description: Datasheet; ComponentLink1URL: http://ww1.microchip.com/downloads/en/DeviceDoc/70143D.pdf; ComponentLink2Description: Packaging Specification; ComponentLink2URL: http://www.microchip.com/stellent/groups/techpub_sg/documents/packagingspec/en012702.pdf; ComponentLink3Description: Microchip.com Home; ComponentLink3URL: http://www.microchip.com/
footprint TQFP-PT64_N (Thin QFP, 64-Leads, Body 10x10mm, Pitch 0.5mm, IPC Medium Density)
footprint TQFP-PT64_L (Thin QFP, 64-Leads, Body 10x10mm, Pitch 0.5mm, IPC High Density)
footprint TQFP-PT64_M (Thin QFP, 64-Leads, Body 10x10mm, Pitch 0.5mm, IPC Low Density)
pins: 1 RG15 (io), 2 T2CK/RC1 (io), 3 T3CK/RC2 (io), 4 SCK2/CN8/RG6 (io), 5 SDI2/CN9/RG7 (io), 6 SDO2/CN10/RG8 (io), 7 ~{MCLR} (in), 8 ~{SS2}/CN11/RG9 (io), 9 VSS (power), 10 VDD (power), 11 AN5/IC8/CN7/RB5 (io), 12 AN4/IC7/CN6/RB4 (io), 13 AN3/CN5/RB3 (io), 14 AN2/~{SS1}/LVDIN/CN4/RB2 (io), 15 AN1/VREF-/CN3/RB1 (io), 16 AN0/VREF+/CN2/RB0 (io), 17 PGC/EMUC/AN6/OCFA/RB6 (io), 18 PGD/EMUD/AN7/RB7 (io), 19 AVDD (power), 20 AVSS (power), 21 AN8/RB8 (io), 22 AN9/RB9 (io), 23 AN10/RB10 (io), 24 AN11/RB11 (io), 25 VSS (power), 26 VDD (power), 27 AN12/RB12 (io), 28 AN13/RB13 (io), 29 AN14/RB14 (io), 30 AN15/OCFB/CN12/RB15 (io), 31 U2RX/CN17/RF4 (io), 32 U2TX/CN18/RF5 (io), 33 EMUD3/U1TX/SDO1/RF3 (io), 34 U1RX/SDI1/RF2 (io), 35 EMUC3/SCK1/INT0/RF6 (io), 36 SDA/RG3 (io), 37 SCL/RG2 (io), 38 VDD (power), 39 OSC1/CLKI (in), 40 OSC2/CLKO/RC15 (io), 41 VSS (power), 42 IC1/INT1/RD8 (io), 43 IC2/INT2/RD9 (io), 44 IC3/INT3/RD10 (io), 45 IC4/INT4/RD11 (io), 46 EMUC2/OC1/RD0 (io), 47 EMUD1/SOSCI/T4CK/CN1/RC13 (io), 48 EMUC1/SOSCO/T1CK/CN0/RC14 (io), 49 EMUD2/OC2/RD1 (io), 50 OC3/RD2 (io), 51 OC4/RD3 (io), 52 OC5/IC5/CN13/RD4 (io), 53 OC6/IC6/CN14/RD5 (io), 54 OC7/CN15/RD6 (io), 55 OC8/CN16/RD7 (io), 56 VSS (power), 57 VDD (power), 58 C1RX/RF0 (io), 59 C1TX/RF1 (io), 60 C2TX/RG1 (io), 61 C2RX/RG0 (io), 62 RG14 (io), 63 RG12 (io), 64 RG13 (io)

## DSPIC30F6012A-20E/PF
designator U?
High-Performance 16-bit Digital Signal Controller, 144 KB Flash, 8 KB SRAM, 4 KB EEPROM, 64-Pin TQFP, Extended High Temperature; Published: 29-Jan-2009; DatasheetVersion: revD, Jul-2008; PackageVersion: revBB, Aug-2009; PackageReference: TQFP-PF64; Publisher: Altium Limited; PackageDescription: 64-Lead Plastic Thin Quad Flatpack (PF) - 14x14x1mm Body, 2.00mm [TQFP]; Supplier 1: Digi-Key; Supplier Part Number 1: DSPIC30F6012A-20E/PF-ND; Supplier 2: Farnell; Supplier Part Number 2: 1262778; Code_JEDEC: MS-026-AEB; ComponentLink1Description: Datasheet; ComponentLink1URL: http://ww1.microchip.com/downloads/en/DeviceDoc/70143D.pdf; ComponentLink2Description: Packaging Specification; ComponentLink2URL: http://www.microchip.com/stellent/groups/techpub_sg/documents/packagingspec/en012702.pdf; ComponentLink3Description: Microchip.com Home; ComponentLink3URL: http://www.microchip.com/
footprint TQFP-PF64_N (Thin QFP, 64-Leads, Body 14x14mm, Pitch 0.8mm, IPC Medium Density)
footprint TQFP-PF64_L (Thin QFP, 64-Leads, Body 14x14mm, Pitch 0.8mm, IPC High Density)
footprint TQFP-PF64_M (Thin QFP, 64-Leads, Body 14x14mm, Pitch 0.8mm, IPC Low Density)
pins: 1 COFS/RG15 (io), 2 T2CK/RC1 (io), 3 T3CK/RC2 (io), 4 SCK2/CN8/RG6 (io), 5 SDI2/CN9/RG7 (io), 6 SDO2/CN10/RG8 (io), 7 ~{MCLR} (in), 8 ~{SS2}/CN11/RG9 (io), 9 VSS (power), 10 VDD (power), 11 AN5/IC8/CN7/RB5 (io), 12 AN4/IC7/CN6/RB4 (io), 13 AN3/CN5/RB3 (io), 14 AN2/~{SS1}/LVDIN/CN4/RB2 (io), 15 AN1/VREF-/CN3/RB1 (io), 16 AN0/VREF+/CN2/RB0 (io), 17 PGC/EMUC/AN6/OCFA/RB6 (io), 18 PGD/EMUD/AN7/RB7 (io), 19 AVDD (power), 20 AVSS (power), 21 AN8/RB8 (io), 22 AN9/RB9 (io), 23 AN10/RB10 (io), 24 AN11/RB11 (io), 25 VSS (power), 26 VDD (power), 27 AN12/RB12 (io), 28 AN13/RB13 (io), 29 AN14/RB14 (io), 30 AN15/OCFB/CN12/RB15 (io), 31 U2RX/CN17/RF4 (io), 32 U2TX/CN18/RF5 (io), 33 EMUD3/U1TX/SDO1/RF3 (io), 34 U1RX/SDI1/RF2 (io), 35 EMUC3/SCK1/INT0/RF6 (io), 36 SDA/RG3 (io), 37 SCL/RG2 (io), 38 VDD (power), 39 OSC1/CLKI (in), 40 OSC2/CLKO/RC15 (io), 41 VSS (power), 42 IC1/INT1/RD8 (io), 43 IC2/INT2/RD9 (io), 44 IC3/INT3/RD10 (io), 45 IC4/INT4/RD11 (io), 46 EMUC2/OC1/RD0 (io), 47 EMUD1/SOSCI/T4CK/CN1/RC13 (io), 48 EMUC1/SOSCO/T1CK/CN0/RC14 (io), 49 EMUD2/OC2/RD1 (io), 50 OC3/RD2 (io), 51 OC4/RD3 (io), 52 OC5/IC5/CN13/RD4 (io), 53 OC6/IC6/CN14/RD5 (io), 54 OC7/CN15/RD6 (io), 55 OC8/CN16/RD7 (io), 56 VSS (power), 57 VDD (power), 58 C1RX/RF0 (io), 59 C1TX/RF1 (io), 60 C2TX/RG1 (io), 61 C2RX/RG0 (io), 62 CSCK/RG14 (io), 63 CSDI/RG12 (io), 64 CSDO/RG13 (io)

## DSPIC30F6012A-20E/PT
designator U?
High-Performance 16-bit Digital Signal Controller, 144 KB Flash, 8 KB SRAM, 4 KB EEPROM, 64-Pin TQFP, Extended High Temperature; Published: 29-Jan-2009; DatasheetVersion: revD, Jul-2008; PackageVersion: revBB, Aug-2009; PackageReference: TQFP-PT64; Publisher: Altium Limited; PackageDescription: 64-Lead Thin Plastic Quad Flat Pack (PT) - 10x10x1mm Body, 2.00mm [TQFP]; Supplier 1: Digi-Key; Supplier Part Number 1: DSPIC30F6012A-20E/PT-ND; Code_JEDEC: MS-026; ComponentLink1Description: Datasheet; ComponentLink1URL: http://ww1.microchip.com/downloads/en/DeviceDoc/70143D.pdf; ComponentLink2Description: Packaging Specification; ComponentLink2URL: http://www.microchip.com/stellent/groups/techpub_sg/documents/packagingspec/en012702.pdf; ComponentLink3Description: Microchip.com Home; ComponentLink3URL: http://www.microchip.com/
footprint TQFP-PT64_N (Thin QFP, 64-Leads, Body 10x10mm, Pitch 0.5mm, IPC Medium Density)
footprint TQFP-PT64_L (Thin QFP, 64-Leads, Body 10x10mm, Pitch 0.5mm, IPC High Density)
footprint TQFP-PT64_M (Thin QFP, 64-Leads, Body 10x10mm, Pitch 0.5mm, IPC Low Density)
pins: 1 COFS/RG15 (io), 2 T2CK/RC1 (io), 3 T3CK/RC2 (io), 4 SCK2/CN8/RG6 (io), 5 SDI2/CN9/RG7 (io), 6 SDO2/CN10/RG8 (io), 7 ~{MCLR} (in), 8 ~{SS2}/CN11/RG9 (io), 9 VSS (power), 10 VDD (power), 11 AN5/IC8/CN7/RB5 (io), 12 AN4/IC7/CN6/RB4 (io), 13 AN3/CN5/RB3 (io), 14 AN2/~{SS1}/LVDIN/CN4/RB2 (io), 15 AN1/VREF-/CN3/RB1 (io), 16 AN0/VREF+/CN2/RB0 (io), 17 PGC/EMUC/AN6/OCFA/RB6 (io), 18 PGD/EMUD/AN7/RB7 (io), 19 AVDD (power), 20 AVSS (power), 21 AN8/RB8 (io), 22 AN9/RB9 (io), 23 AN10/RB10 (io), 24 AN11/RB11 (io), 25 VSS (power), 26 VDD (power), 27 AN12/RB12 (io), 28 AN13/RB13 (io), 29 AN14/RB14 (io), 30 AN15/OCFB/CN12/RB15 (io), 31 U2RX/CN17/RF4 (io), 32 U2TX/CN18/RF5 (io), 33 EMUD3/U1TX/SDO1/RF3 (io), 34 U1RX/SDI1/RF2 (io), 35 EMUC3/SCK1/INT0/RF6 (io), 36 SDA/RG3 (io), 37 SCL/RG2 (io), 38 VDD (power), 39 OSC1/CLKI (in), 40 OSC2/CLKO/RC15 (io), 41 VSS (power), 42 IC1/INT1/RD8 (io), 43 IC2/INT2/RD9 (io), 44 IC3/INT3/RD10 (io), 45 IC4/INT4/RD11 (io), 46 EMUC2/OC1/RD0 (io), 47 EMUD1/SOSCI/T4CK/CN1/RC13 (io), 48 EMUC1/SOSCO/T1CK/CN0/RC14 (io), 49 EMUD2/OC2/RD1 (io), 50 OC3/RD2 (io), 51 OC4/RD3 (io), 52 OC5/IC5/CN13/RD4 (io), 53 OC6/IC6/CN14/RD5 (io), 54 OC7/CN15/RD6 (io), 55 OC8/CN16/RD7 (io), 56 VSS (power), 57 VDD (power), 58 C1RX/RF0 (io), 59 C1TX/RF1 (io), 60 C2TX/RG1 (io), 61 C2RX/RG0 (io), 62 CSCK/RG14 (io), 63 CSDI/RG12 (io), 64 CSDO/RG13 (io)

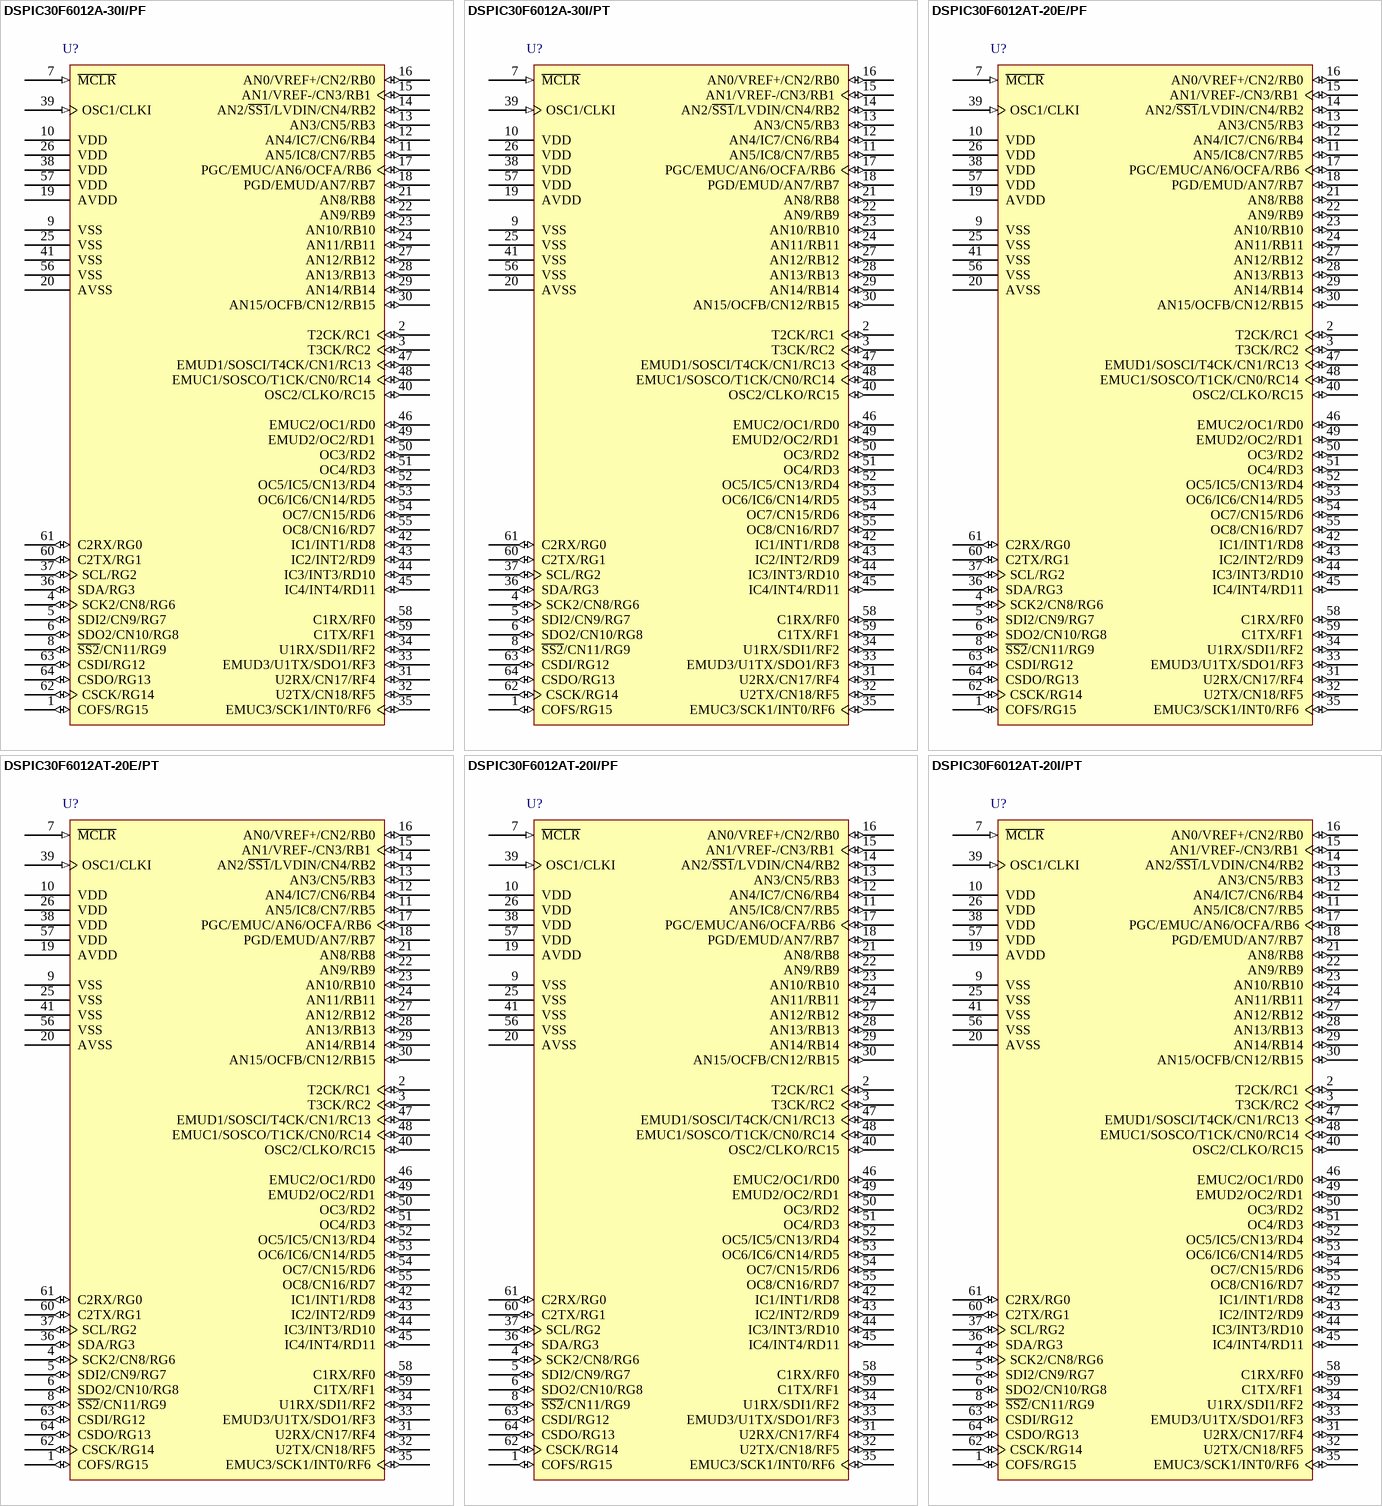
[diagram p35: symbols DSPIC30F6012A-30I/PF to DSPIC30F6012AT-20I/PT]

## DSPIC30F6012A-30I/PF
designator U?
High-Performance 16-bit Digital Signal Controller, 144 KB Flash, 8 KB SRAM, 4 KB EEPROM, 64-Pin TQFP, Industrial Temperature; Published: 29-Jan-2009; DatasheetVersion: revD, Jul-2008; PackageVersion: revBB, Aug-2009; PackageReference: TQFP-PF64; Publisher: Altium Limited; PackageDescription: 64-Lead Plastic Thin Quad Flatpack (PF) - 14x14x1mm Body, 2.00mm [TQFP]; Supplier 1: Digi-Key; Supplier Part Number 1: DSPIC30F6012A-30I/PF-ND; Supplier 2: Farnell; Supplier Part Number 2: 1262779; Supplier 3: Farnell; Supplier Part Number 3: 1467795; Code_JEDEC: MS-026-AEB; ComponentLink1Description: Datasheet; ComponentLink1URL: http://ww1.microchip.com/downloads/en/DeviceDoc/70143D.pdf; ComponentLink2Description: Packaging Specification; ComponentLink2URL: http://www.microchip.com/stellent/groups/techpub_sg/documents/packagingspec/en012702.pdf; ComponentLink3Description: Microchip.com Home; ComponentLink3URL: http://www.microchip.com/
footprint TQFP-PF64_N (Thin QFP, 64-Leads, Body 14x14mm, Pitch 0.8mm, IPC Medium Density)
footprint TQFP-PF64_L (Thin QFP, 64-Leads, Body 14x14mm, Pitch 0.8mm, IPC High Density)
footprint TQFP-PF64_M (Thin QFP, 64-Leads, Body 14x14mm, Pitch 0.8mm, IPC Low Density)
pins: 1 COFS/RG15 (io), 2 T2CK/RC1 (io), 3 T3CK/RC2 (io), 4 SCK2/CN8/RG6 (io), 5 SDI2/CN9/RG7 (io), 6 SDO2/CN10/RG8 (io), 7 ~{MCLR} (in), 8 ~{SS2}/CN11/RG9 (io), 9 VSS (power), 10 VDD (power), 11 AN5/IC8/CN7/RB5 (io), 12 AN4/IC7/CN6/RB4 (io), 13 AN3/CN5/RB3 (io), 14 AN2/~{SS1}/LVDIN/CN4/RB2 (io), 15 AN1/VREF-/CN3/RB1 (io), 16 AN0/VREF+/CN2/RB0 (io), 17 PGC/EMUC/AN6/OCFA/RB6 (io), 18 PGD/EMUD/AN7/RB7 (io), 19 AVDD (power), 20 AVSS (power), 21 AN8/RB8 (io), 22 AN9/RB9 (io), 23 AN10/RB10 (io), 24 AN11/RB11 (io), 25 VSS (power), 26 VDD (power), 27 AN12/RB12 (io), 28 AN13/RB13 (io), 29 AN14/RB14 (io), 30 AN15/OCFB/CN12/RB15 (io), 31 U2RX/CN17/RF4 (io), 32 U2TX/CN18/RF5 (io), 33 EMUD3/U1TX/SDO1/RF3 (io), 34 U1RX/SDI1/RF2 (io), 35 EMUC3/SCK1/INT0/RF6 (io), 36 SDA/RG3 (io), 37 SCL/RG2 (io), 38 VDD (power), 39 OSC1/CLKI (in), 40 OSC2/CLKO/RC15 (io), 41 VSS (power), 42 IC1/INT1/RD8 (io), 43 IC2/INT2/RD9 (io), 44 IC3/INT3/RD10 (io), 45 IC4/INT4/RD11 (io), 46 EMUC2/OC1/RD0 (io), 47 EMUD1/SOSCI/T4CK/CN1/RC13 (io), 48 EMUC1/SOSCO/T1CK/CN0/RC14 (io), 49 EMUD2/OC2/RD1 (io), 50 OC3/RD2 (io), 51 OC4/RD3 (io), 52 OC5/IC5/CN13/RD4 (io), 53 OC6/IC6/CN14/RD5 (io), 54 OC7/CN15/RD6 (io), 55 OC8/CN16/RD7 (io), 56 VSS (power), 57 VDD (power), 58 C1RX/RF0 (io), 59 C1TX/RF1 (io), 60 C2TX/RG1 (io), 61 C2RX/RG0 (io), 62 CSCK/RG14 (io), 63 CSDI/RG12 (io), 64 CSDO/RG13 (io)

## DSPIC30F6012A-30I/PT
designator U?
High-Performance 16-bit Digital Signal Controller, 144 KB Flash, 8 KB SRAM, 4 KB EEPROM, 64-Pin TQFP, Industrial Temperature; Published: 29-Jan-2009; DatasheetVersion: revD, Jul-2008; PackageVersion: revBB, Aug-2009; PackageReference: TQFP-PT64; Publisher: Altium Limited; PackageDescription: 64-Lead Thin Plastic Quad Flat Pack (PT) - 10x10x1mm Body, 2.00mm [TQFP]; Supplier 1: Digi-Key; Supplier Part Number 1: DSPIC30F6012A30IP-ND; Supplier 2: Farnell; Supplier Part Number 2: 1332034; Code_JEDEC: MS-026; ComponentLink1Description: Datasheet; ComponentLink1URL: http://ww1.microchip.com/downloads/en/DeviceDoc/70143D.pdf; ComponentLink2Description: Packaging Specification; ComponentLink2URL: http://www.microchip.com/stellent/groups/techpub_sg/documents/packagingspec/en012702.pdf; ComponentLink3Description: Microchip.com Home; ComponentLink3URL: http://www.microchip.com/
footprint TQFP-PT64_N (Thin QFP, 64-Leads, Body 10x10mm, Pitch 0.5mm, IPC Medium Density)
footprint TQFP-PT64_L (Thin QFP, 64-Leads, Body 10x10mm, Pitch 0.5mm, IPC High Density)
footprint TQFP-PT64_M (Thin QFP, 64-Leads, Body 10x10mm, Pitch 0.5mm, IPC Low Density)
pins: 1 COFS/RG15 (io), 2 T2CK/RC1 (io), 3 T3CK/RC2 (io), 4 SCK2/CN8/RG6 (io), 5 SDI2/CN9/RG7 (io), 6 SDO2/CN10/RG8 (io), 7 ~{MCLR} (in), 8 ~{SS2}/CN11/RG9 (io), 9 VSS (power), 10 VDD (power), 11 AN5/IC8/CN7/RB5 (io), 12 AN4/IC7/CN6/RB4 (io), 13 AN3/CN5/RB3 (io), 14 AN2/~{SS1}/LVDIN/CN4/RB2 (io), 15 AN1/VREF-/CN3/RB1 (io), 16 AN0/VREF+/CN2/RB0 (io), 17 PGC/EMUC/AN6/OCFA/RB6 (io), 18 PGD/EMUD/AN7/RB7 (io), 19 AVDD (power), 20 AVSS (power), 21 AN8/RB8 (io), 22 AN9/RB9 (io), 23 AN10/RB10 (io), 24 AN11/RB11 (io), 25 VSS (power), 26 VDD (power), 27 AN12/RB12 (io), 28 AN13/RB13 (io), 29 AN14/RB14 (io), 30 AN15/OCFB/CN12/RB15 (io), 31 U2RX/CN17/RF4 (io), 32 U2TX/CN18/RF5 (io), 33 EMUD3/U1TX/SDO1/RF3 (io), 34 U1RX/SDI1/RF2 (io), 35 EMUC3/SCK1/INT0/RF6 (io), 36 SDA/RG3 (io), 37 SCL/RG2 (io), 38 VDD (power), 39 OSC1/CLKI (in), 40 OSC2/CLKO/RC15 (io), 41 VSS (power), 42 IC1/INT1/RD8 (io), 43 IC2/INT2/RD9 (io), 44 IC3/INT3/RD10 (io), 45 IC4/INT4/RD11 (io), 46 EMUC2/OC1/RD0 (io), 47 EMUD1/SOSCI/T4CK/CN1/RC13 (io), 48 EMUC1/SOSCO/T1CK/CN0/RC14 (io), 49 EMUD2/OC2/RD1 (io), 50 OC3/RD2 (io), 51 OC4/RD3 (io), 52 OC5/IC5/CN13/RD4 (io), 53 OC6/IC6/CN14/RD5 (io), 54 OC7/CN15/RD6 (io), 55 OC8/CN16/RD7 (io), 56 VSS (power), 57 VDD (power), 58 C1RX/RF0 (io), 59 C1TX/RF1 (io), 60 C2TX/RG1 (io), 61 C2RX/RG0 (io), 62 CSCK/RG14 (io), 63 CSDI/RG12 (io), 64 CSDO/RG13 (io)

## DSPIC30F6012AT-20E/PF
designator U?
High-Performance 16-bit Digital Signal Controller, 144 KB Flash, 8 KB SRAM, 4 KB EEPROM, 64-Pin TQFP, Extended High Temperature, Tape and Reel; Published: 29-Jan-2009; DatasheetVersion: revD, Jul-2008; PackageVersion: revBB, Aug-2009; PackageReference: TQFP-PF64; Publisher: Altium Limited; PackageDescription: 64-Lead Plastic Thin Quad Flatpack (PF) - 14x14x1mm Body, 2.00mm [TQFP]; Supplier 1: Digi-Key; Supplier Part Number 1: DSPIC30F6012AT-20E/PF-ND; Code_JEDEC: MS-026-AEB; ComponentLink1Description: Datasheet; ComponentLink1URL: http://ww1.microchip.com/downloads/en/DeviceDoc/70143D.pdf; ComponentLink2Description: Packaging Specification; ComponentLink2URL: http://www.microchip.com/stellent/groups/techpub_sg/documents/packagingspec/en012702.pdf; ComponentLink3Description: Microchip.com Home; ComponentLink3URL: http://www.microchip.com/
footprint TQFP-PF64_N (Thin QFP, 64-Leads, Body 14x14mm, Pitch 0.8mm, IPC Medium Density)
footprint TQFP-PF64_L (Thin QFP, 64-Leads, Body 14x14mm, Pitch 0.8mm, IPC High Density)
footprint TQFP-PF64_M (Thin QFP, 64-Leads, Body 14x14mm, Pitch 0.8mm, IPC Low Density)
pins: 1 COFS/RG15 (io), 2 T2CK/RC1 (io), 3 T3CK/RC2 (io), 4 SCK2/CN8/RG6 (io), 5 SDI2/CN9/RG7 (io), 6 SDO2/CN10/RG8 (io), 7 ~{MCLR} (in), 8 ~{SS2}/CN11/RG9 (io), 9 VSS (power), 10 VDD (power), 11 AN5/IC8/CN7/RB5 (io), 12 AN4/IC7/CN6/RB4 (io), 13 AN3/CN5/RB3 (io), 14 AN2/~{SS1}/LVDIN/CN4/RB2 (io), 15 AN1/VREF-/CN3/RB1 (io), 16 AN0/VREF+/CN2/RB0 (io), 17 PGC/EMUC/AN6/OCFA/RB6 (io), 18 PGD/EMUD/AN7/RB7 (io), 19 AVDD (power), 20 AVSS (power), 21 AN8/RB8 (io), 22 AN9/RB9 (io), 23 AN10/RB10 (io), 24 AN11/RB11 (io), 25 VSS (power), 26 VDD (power), 27 AN12/RB12 (io), 28 AN13/RB13 (io), 29 AN14/RB14 (io), 30 AN15/OCFB/CN12/RB15 (io), 31 U2RX/CN17/RF4 (io), 32 U2TX/CN18/RF5 (io), 33 EMUD3/U1TX/SDO1/RF3 (io), 34 U1RX/SDI1/RF2 (io), 35 EMUC3/SCK1/INT0/RF6 (io), 36 SDA/RG3 (io), 37 SCL/RG2 (io), 38 VDD (power), 39 OSC1/CLKI (in), 40 OSC2/CLKO/RC15 (io), 41 VSS (power), 42 IC1/INT1/RD8 (io), 43 IC2/INT2/RD9 (io), 44 IC3/INT3/RD10 (io), 45 IC4/INT4/RD11 (io), 46 EMUC2/OC1/RD0 (io), 47 EMUD1/SOSCI/T4CK/CN1/RC13 (io), 48 EMUC1/SOSCO/T1CK/CN0/RC14 (io), 49 EMUD2/OC2/RD1 (io), 50 OC3/RD2 (io), 51 OC4/RD3 (io), 52 OC5/IC5/CN13/RD4 (io), 53 OC6/IC6/CN14/RD5 (io), 54 OC7/CN15/RD6 (io), 55 OC8/CN16/RD7 (io), 56 VSS (power), 57 VDD (power), 58 C1RX/RF0 (io), 59 C1TX/RF1 (io), 60 C2TX/RG1 (io), 61 C2RX/RG0 (io), 62 CSCK/RG14 (io), 63 CSDI/RG12 (io), 64 CSDO/RG13 (io)

## DSPIC30F6012AT-20E/PT
designator U?
High-Performance 16-bit Digital Signal Controller, 144 KB Flash, 8 KB SRAM, 4 KB EEPROM, 64-Pin TQFP, Extended High Temperature, Tape and Reel; Published: 29-Jan-2009; DatasheetVersion: revD, Jul-2008; PackageVersion: revBB, Aug-2009; PackageReference: TQFP-PT64; Publisher: Altium Limited; PackageDescription: 64-Lead Thin Plastic Quad Flat Pack (PT) - 10x10x1mm Body, 2.00mm [TQFP]; Supplier 1: Digi-Key; Supplier Part Number 1: DSPIC30F6012AT-20E/PT-ND; Code_JEDEC: MS-026; ComponentLink1Description: Datasheet; ComponentLink1URL: http://ww1.microchip.com/downloads/en/DeviceDoc/70143D.pdf; ComponentLink2Description: Packaging Specification; ComponentLink2URL: http://www.microchip.com/stellent/groups/techpub_sg/documents/packagingspec/en012702.pdf; ComponentLink3Description: Microchip.com Home; ComponentLink3URL: http://www.microchip.com/
footprint TQFP-PT64_N (Thin QFP, 64-Leads, Body 10x10mm, Pitch 0.5mm, IPC Medium Density)
footprint TQFP-PT64_L (Thin QFP, 64-Leads, Body 10x10mm, Pitch 0.5mm, IPC High Density)
footprint TQFP-PT64_M (Thin QFP, 64-Leads, Body 10x10mm, Pitch 0.5mm, IPC Low Density)
pins: 1 COFS/RG15 (io), 2 T2CK/RC1 (io), 3 T3CK/RC2 (io), 4 SCK2/CN8/RG6 (io), 5 SDI2/CN9/RG7 (io), 6 SDO2/CN10/RG8 (io), 7 ~{MCLR} (in), 8 ~{SS2}/CN11/RG9 (io), 9 VSS (power), 10 VDD (power), 11 AN5/IC8/CN7/RB5 (io), 12 AN4/IC7/CN6/RB4 (io), 13 AN3/CN5/RB3 (io), 14 AN2/~{SS1}/LVDIN/CN4/RB2 (io), 15 AN1/VREF-/CN3/RB1 (io), 16 AN0/VREF+/CN2/RB0 (io), 17 PGC/EMUC/AN6/OCFA/RB6 (io), 18 PGD/EMUD/AN7/RB7 (io), 19 AVDD (power), 20 AVSS (power), 21 AN8/RB8 (io), 22 AN9/RB9 (io), 23 AN10/RB10 (io), 24 AN11/RB11 (io), 25 VSS (power), 26 VDD (power), 27 AN12/RB12 (io), 28 AN13/RB13 (io), 29 AN14/RB14 (io), 30 AN15/OCFB/CN12/RB15 (io), 31 U2RX/CN17/RF4 (io), 32 U2TX/CN18/RF5 (io), 33 EMUD3/U1TX/SDO1/RF3 (io), 34 U1RX/SDI1/RF2 (io), 35 EMUC3/SCK1/INT0/RF6 (io), 36 SDA/RG3 (io), 37 SCL/RG2 (io), 38 VDD (power), 39 OSC1/CLKI (in), 40 OSC2/CLKO/RC15 (io), 41 VSS (power), 42 IC1/INT1/RD8 (io), 43 IC2/INT2/RD9 (io), 44 IC3/INT3/RD10 (io), 45 IC4/INT4/RD11 (io), 46 EMUC2/OC1/RD0 (io), 47 EMUD1/SOSCI/T4CK/CN1/RC13 (io), 48 EMUC1/SOSCO/T1CK/CN0/RC14 (io), 49 EMUD2/OC2/RD1 (io), 50 OC3/RD2 (io), 51 OC4/RD3 (io), 52 OC5/IC5/CN13/RD4 (io), 53 OC6/IC6/CN14/RD5 (io), 54 OC7/CN15/RD6 (io), 55 OC8/CN16/RD7 (io), 56 VSS (power), 57 VDD (power), 58 C1RX/RF0 (io), 59 C1TX/RF1 (io), 60 C2TX/RG1 (io), 61 C2RX/RG0 (io), 62 CSCK/RG14 (io), 63 CSDI/RG12 (io), 64 CSDO/RG13 (io)

## DSPIC30F6012AT-20I/PF
designator U?
High-Performance 16-bit Digital Signal Controller, 144 KB Flash, 8 KB SRAM, 4 KB EEPROM, 64-Pin TQFP, Industrial Temperature, Tape and Reel; Published: 29-Jan-2009; DatasheetVersion: revD, Jul-2008; PackageVersion: revBB, Aug-2009; PackageReference: TQFP-PF64; Publisher: Altium Limited; PackageDescription: 64-Lead Plastic Thin Quad Flatpack (PF) - 14x14x1mm Body, 2.00mm [TQFP]; Code_JEDEC: MS-026-AEB; ComponentLink1Description: Datasheet; ComponentLink1URL: http://ww1.microchip.com/downloads/en/DeviceDoc/70143D.pdf; ComponentLink2Description: Packaging Specification; ComponentLink2URL: http://www.microchip.com/stellent/groups/techpub_sg/documents/packagingspec/en012702.pdf; ComponentLink3Description: Microchip.com Home; ComponentLink3URL: http://www.microchip.com/
footprint TQFP-PF64_N (Thin QFP, 64-Leads, Body 14x14mm, Pitch 0.8mm, IPC Medium Density)
footprint TQFP-PF64_L (Thin QFP, 64-Leads, Body 14x14mm, Pitch 0.8mm, IPC High Density)
footprint TQFP-PF64_M (Thin QFP, 64-Leads, Body 14x14mm, Pitch 0.8mm, IPC Low Density)
pins: 1 COFS/RG15 (io), 2 T2CK/RC1 (io), 3 T3CK/RC2 (io), 4 SCK2/CN8/RG6 (io), 5 SDI2/CN9/RG7 (io), 6 SDO2/CN10/RG8 (io), 7 ~{MCLR} (in), 8 ~{SS2}/CN11/RG9 (io), 9 VSS (power), 10 VDD (power), 11 AN5/IC8/CN7/RB5 (io), 12 AN4/IC7/CN6/RB4 (io), 13 AN3/CN5/RB3 (io), 14 AN2/~{SS1}/LVDIN/CN4/RB2 (io), 15 AN1/VREF-/CN3/RB1 (io), 16 AN0/VREF+/CN2/RB0 (io), 17 PGC/EMUC/AN6/OCFA/RB6 (io), 18 PGD/EMUD/AN7/RB7 (io), 19 AVDD (power), 20 AVSS (power), 21 AN8/RB8 (io), 22 AN9/RB9 (io), 23 AN10/RB10 (io), 24 AN11/RB11 (io), 25 VSS (power), 26 VDD (power), 27 AN12/RB12 (io), 28 AN13/RB13 (io), 29 AN14/RB14 (io), 30 AN15/OCFB/CN12/RB15 (io), 31 U2RX/CN17/RF4 (io), 32 U2TX/CN18/RF5 (io), 33 EMUD3/U1TX/SDO1/RF3 (io), 34 U1RX/SDI1/RF2 (io), 35 EMUC3/SCK1/INT0/RF6 (io), 36 SDA/RG3 (io), 37 SCL/RG2 (io), 38 VDD (power), 39 OSC1/CLKI (in), 40 OSC2/CLKO/RC15 (io), 41 VSS (power), 42 IC1/INT1/RD8 (io), 43 IC2/INT2/RD9 (io), 44 IC3/INT3/RD10 (io), 45 IC4/INT4/RD11 (io), 46 EMUC2/OC1/RD0 (io), 47 EMUD1/SOSCI/T4CK/CN1/RC13 (io), 48 EMUC1/SOSCO/T1CK/CN0/RC14 (io), 49 EMUD2/OC2/RD1 (io), 50 OC3/RD2 (io), 51 OC4/RD3 (io), 52 OC5/IC5/CN13/RD4 (io), 53 OC6/IC6/CN14/RD5 (io), 54 OC7/CN15/RD6 (io), 55 OC8/CN16/RD7 (io), 56 VSS (power), 57 VDD (power), 58 C1RX/RF0 (io), 59 C1TX/RF1 (io), 60 C2TX/RG1 (io), 61 C2RX/RG0 (io), 62 CSCK/RG14 (io), 63 CSDI/RG12 (io), 64 CSDO/RG13 (io)